# Altium integrated library Atmel Microcontroller tinyAVR.IntLib: 370 symbols (part 8 of 11)
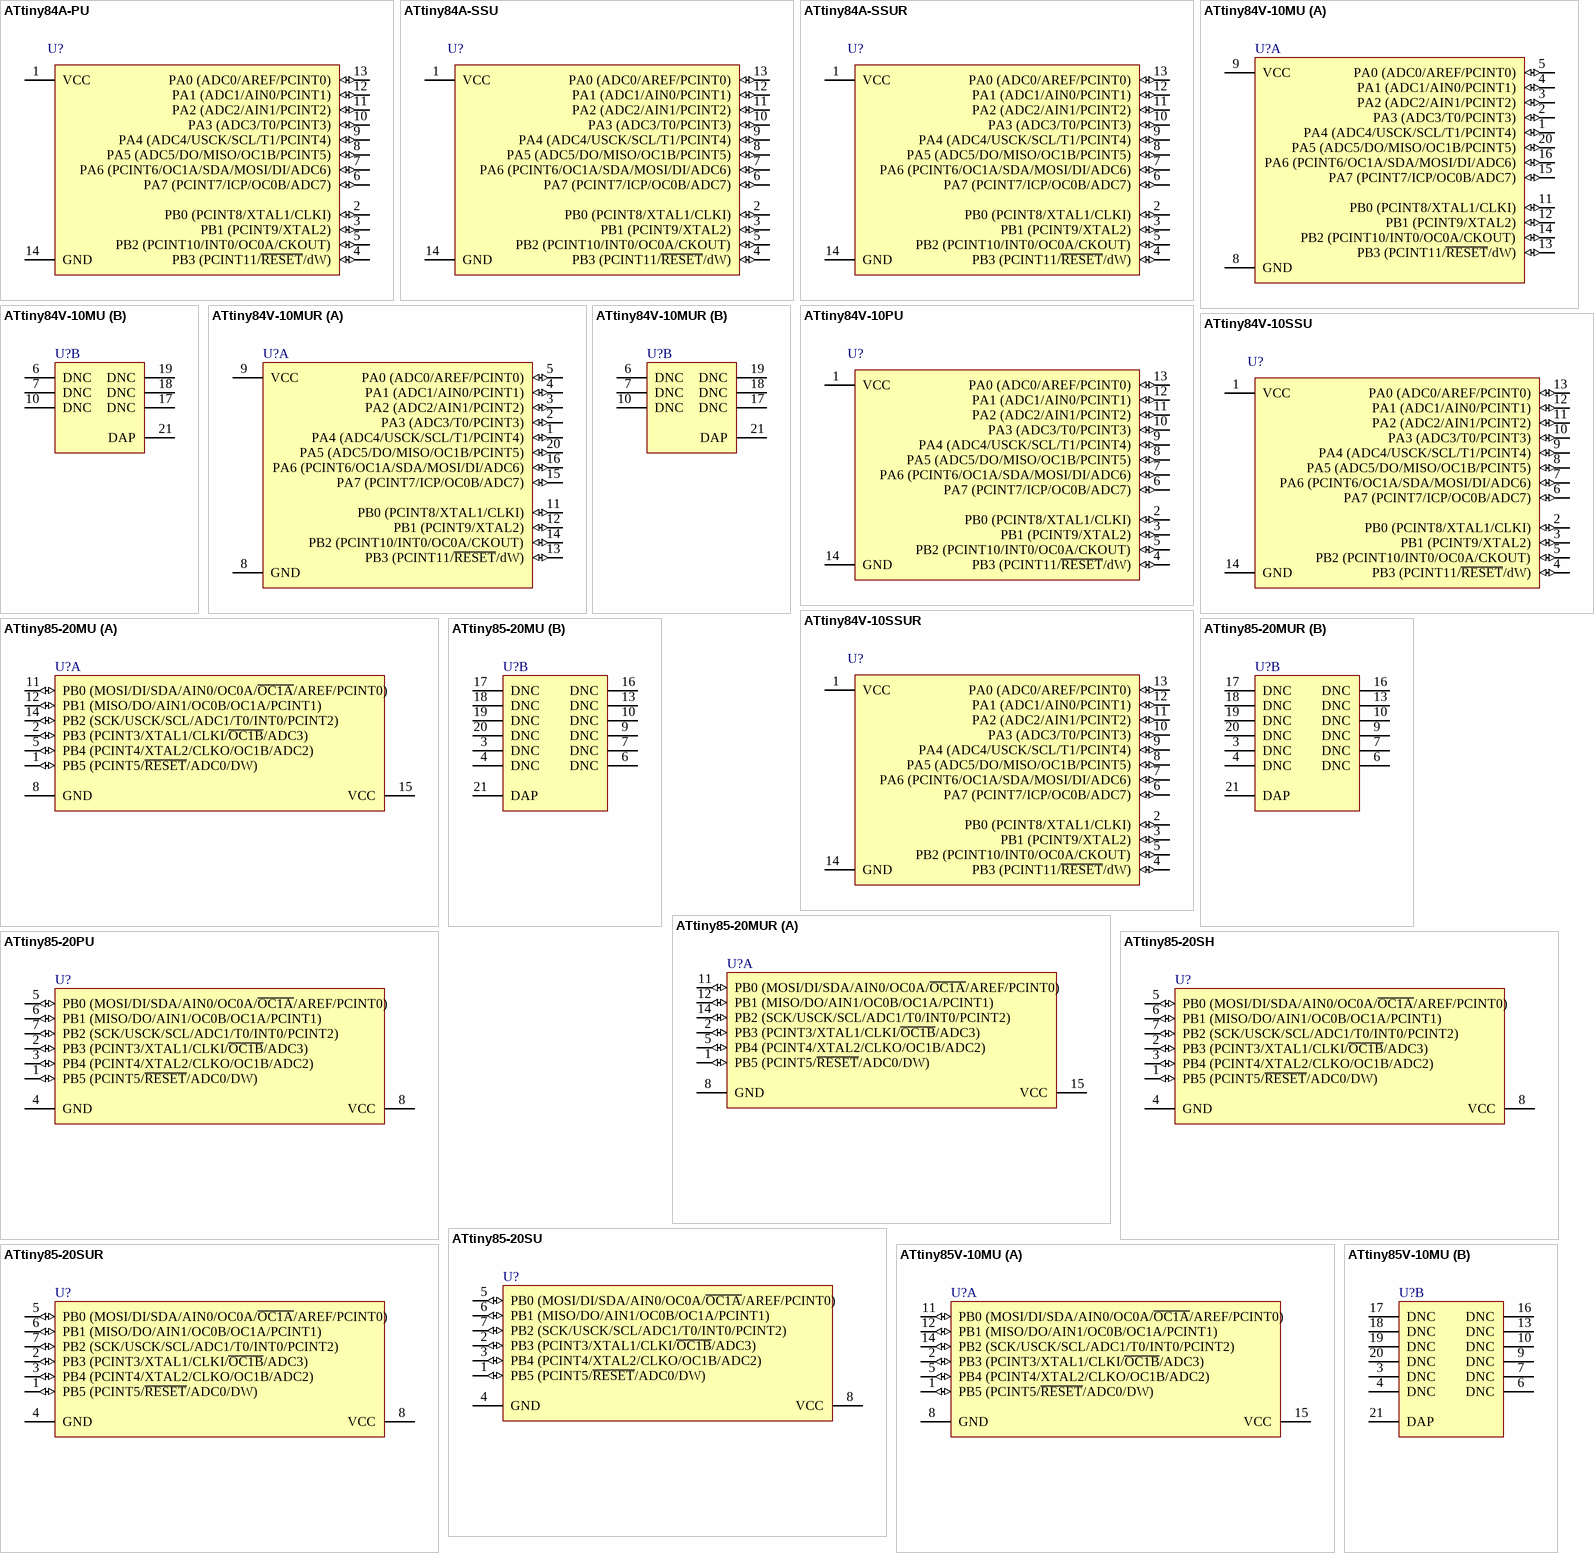
[diagram p33: symbols ATtiny84A-PU to ATtiny85V-10MU]

## ATtiny85-20SU
designator U?
8-bit AVR Microcontroller, 20MHz, 2.7-5.5V, 8K Flash, 512 Bytes EEPROM, 512 Bytes SRAM, Industrial Grade (-40°C to 85°C), 8-Lead SOIC, Pb-Free; DatasheetVersion: revN, Apr-2011; PackageVersion: revF, Apr-2008; PackageReference: 8S2; PackageDescription: 8-Lead, 0.208" Body, Plastic Small Outline Package (EIAJ); ComponentLink1Description: Manufacturer URL; ComponentLink1URL: http://www.atmel.com/; ComponentLink2Description: ATtiny25/45/85 Datasheet; ComponentLink2URL: http://www.atmel.com/dyn/resources/prod_documents/doc2586.pdf; ComponentLink3Description: ATtiny25/45/85 Summary; ComponentLink3URL: http://www.atmel.com/dyn/resources/prod_documents/2586S.pdf
footprint 8S2_N (SOP, 8-Leads, Body 5.3x5.3mm, Pitch 1.27mm, IPC Medium Density)
footprint 8S2_L (SOP, 8-Leads, Body 5.3x5.3mm, Pitch 1.27mm, IPC High Density)
footprint 8S2_M (SOP, 8-Leads, Body 5.3x5.3mm, Pitch 1.27mm, IPC Low Density)
pins: 1 PB5 (PCINT5/~{RESET}/ADC0/DW) (io), 2 PB3 (PCINT3/XTAL1/CLKI/~{OC1B}/ADC3) (io), 3 PB4 (PCINT4/XTAL2/CLKO/OC1B/ADC2) (io), 4 GND (power), 5 PB0 (MOSI/DI/SDA/AIN0/OC0A/~{OC1A}/AREF/PCINT0) (io), 6 PB1 (MISO/DO/AIN1/OC0B/OC1A/PCINT1) (io), 7 PB2 (SCK/USCK/SCL/ADC1/T0/INT0/PCINT2) (io), 8 VCC (power)

## ATtiny85-20SUR
designator U?
8-bit AVR Microcontroller, 20MHz, 2.7-5.5V, 8K Flash, 512 Bytes EEPROM, 512 Bytes SRAM, Industrial Grade (-40°C to 85°C), 8-Lead SOIC, Pb-Free, Reel; DatasheetVersion: revN, Apr-2011; PackageVersion: revF, Apr-2008; PackageReference: 8S2; PackageDescription: 8-Lead, 0.208" Body, Plastic Small Outline Package (EIAJ); ComponentLink1Description: Manufacturer URL; ComponentLink1URL: http://www.atmel.com/; ComponentLink2Description: ATtiny25/45/85 Datasheet; ComponentLink2URL: http://www.atmel.com/dyn/resources/prod_documents/doc2586.pdf; ComponentLink3Description: ATtiny25/45/85 Summary; ComponentLink3URL: http://www.atmel.com/dyn/resources/prod_documents/2586S.pdf
footprint 8S2_N (SOP, 8-Leads, Body 5.3x5.3mm, Pitch 1.27mm, IPC Medium Density)
footprint 8S2_L (SOP, 8-Leads, Body 5.3x5.3mm, Pitch 1.27mm, IPC High Density)
footprint 8S2_M (SOP, 8-Leads, Body 5.3x5.3mm, Pitch 1.27mm, IPC Low Density)
pins: 1 PB5 (PCINT5/~{RESET}/ADC0/DW) (io), 2 PB3 (PCINT3/XTAL1/CLKI/~{OC1B}/ADC3) (io), 3 PB4 (PCINT4/XTAL2/CLKO/OC1B/ADC2) (io), 4 GND (power), 5 PB0 (MOSI/DI/SDA/AIN0/OC0A/~{OC1A}/AREF/PCINT0) (io), 6 PB1 (MISO/DO/AIN1/OC0B/OC1A/PCINT1) (io), 7 PB2 (SCK/USCK/SCL/ADC1/T0/INT0/PCINT2) (io), 8 VCC (power)

## ATtiny85V-10MU
designator U?
8-bit AVR Microcontroller, 10MHz, 1.8-5.5V, 8K Flash, 512 Bytes EEPROM, 512 Bytes SRAM, Industrial Grade (-40°C to 85°C), 20-pad MLF, Pb-Free; DatasheetVersion: revN, Apr-2011; PackageVersion: revA, Oct-2004; PackageReference: 20M1; PackageDescription: 20-pad, 4 x 4 x 0.8 mm Body, Lead Pitch 0.50 mm, 2.6 mm Exposed Pad, Micro Lead Frame Package (MLF); Code_JEDEC: MO-220WGGD-5; ComponentLink1Description: Manufacturer URL; ComponentLink1URL: http://www.atmel.com/; ComponentLink2Description: ATtiny25/45/85 Datasheet; ComponentLink2URL: http://www.atmel.com/dyn/resources/prod_documents/doc2586.pdf; ComponentLink3Description: ATtiny25/45/85 Summary; ComponentLink3URL: http://www.atmel.com/dyn/resources/prod_documents/2586S.pdf
footprint 20M1_N (QFN, 20-Leads, Body 4x4mm, Pitch 0.5mm, Thermal Pad 2.7x2.7mm, IPC Medium Density)
footprint 20M1_L (QFN, 20-Leads, Body 4x4mm, Pitch 0.5mm, Thermal Pad 2.7x2.7mm, IPC High Density)
footprint 20M1_M (QFN, 20-Leads, Body 4x4mm, Pitch 0.5mm, Thermal Pad 2.7x2.7mm, IPC Low Density)
part A pins: 1 PB5 (PCINT5/~{RESET}/ADC0/DW) (io), 2 PB3 (PCINT3/XTAL1/CLKI/~{OC1B}/ADC3) (io), 5 PB4 (PCINT4/XTAL2/CLKO/OC1B/ADC2) (io), 8 GND (power), 11 PB0 (MOSI/DI/SDA/AIN0/OC0A/~{OC1A}/AREF/PCINT0) (io), 12 PB1 (MISO/DO/AIN1/OC0B/OC1A/PCINT1) (io), 14 PB2 (SCK/USCK/SCL/ADC1/T0/INT0/PCINT2) (io), 15 VCC (power)
part B pins: 3 DNC, 4 DNC, 6 DNC, 7 DNC, 9 DNC, 10 DNC, 13 DNC, 16 DNC, 17 DNC, 18 DNC, 19 DNC, 20 DNC, 21 DAP

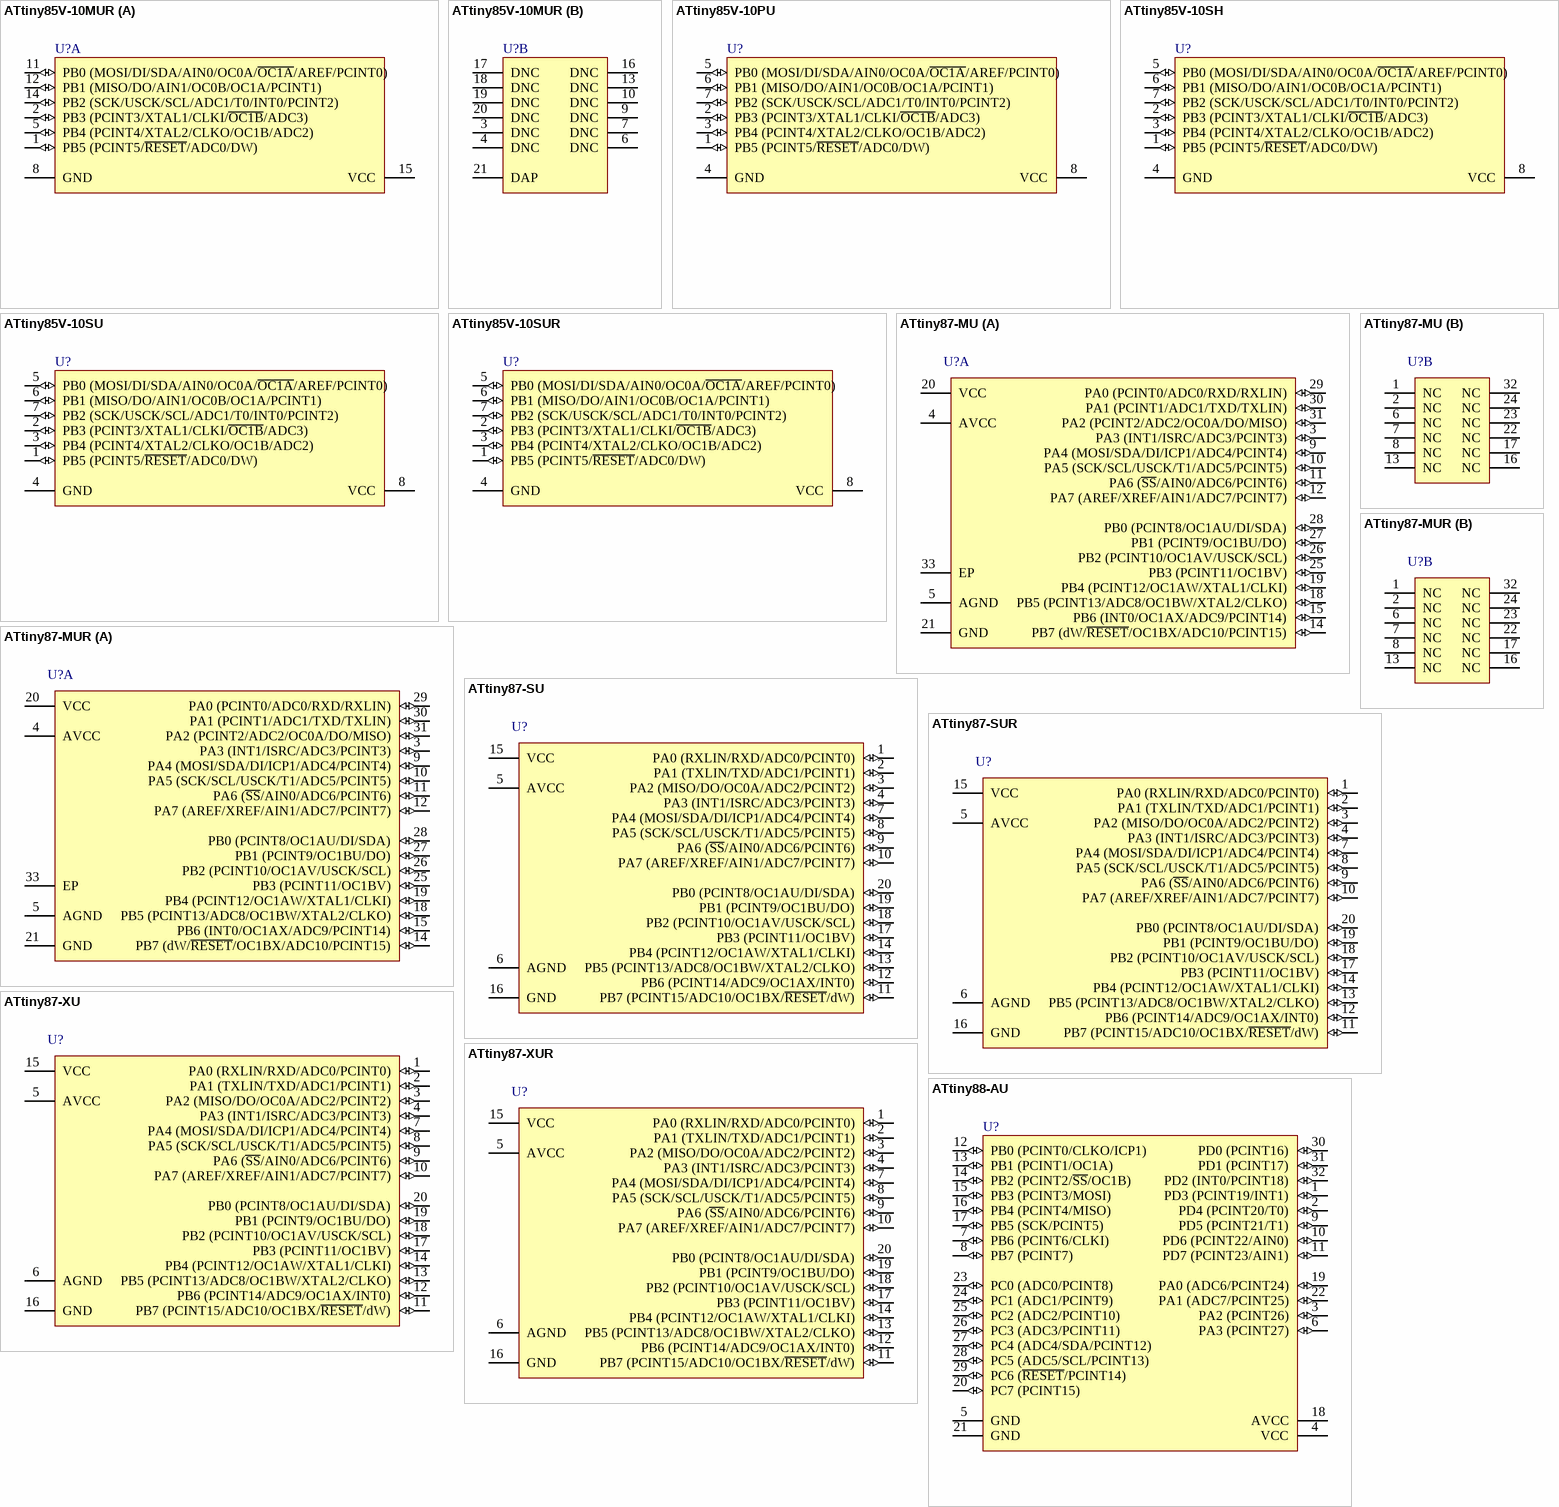
[diagram p17: symbols ATtiny85V-10MUR to ATtiny88-AU]

## ATtiny85V-10MUR
designator U?
8-bit AVR Microcontroller, 10MHz, 1.8-5.5V, 8K Flash, 512 Bytes EEPROM, 512 Bytes SRAM, Industrial Grade (-40°C to 85°C), 20-pad MLF, Pb-Free, Reel; DatasheetVersion: revN, Apr-2011; PackageVersion: revA, Oct-2004; PackageReference: 20M1; PackageDescription: 20-pad, 4 x 4 x 0.8 mm Body, Lead Pitch 0.50 mm, 2.6 mm Exposed Pad, Micro Lead Frame Package (MLF); Code_JEDEC: MO-220WGGD-5; ComponentLink1Description: Manufacturer URL; ComponentLink1URL: http://www.atmel.com/; ComponentLink2Description: ATtiny25/45/85 Datasheet; ComponentLink2URL: http://www.atmel.com/dyn/resources/prod_documents/doc2586.pdf; ComponentLink3Description: ATtiny25/45/85 Summary; ComponentLink3URL: http://www.atmel.com/dyn/resources/prod_documents/2586S.pdf
footprint 20M1_N (QFN, 20-Leads, Body 4x4mm, Pitch 0.5mm, Thermal Pad 2.7x2.7mm, IPC Medium Density)
footprint 20M1_L (QFN, 20-Leads, Body 4x4mm, Pitch 0.5mm, Thermal Pad 2.7x2.7mm, IPC High Density)
footprint 20M1_M (QFN, 20-Leads, Body 4x4mm, Pitch 0.5mm, Thermal Pad 2.7x2.7mm, IPC Low Density)
part A pins: 1 PB5 (PCINT5/~{RESET}/ADC0/DW) (io), 2 PB3 (PCINT3/XTAL1/CLKI/~{OC1B}/ADC3) (io), 5 PB4 (PCINT4/XTAL2/CLKO/OC1B/ADC2) (io), 8 GND (power), 11 PB0 (MOSI/DI/SDA/AIN0/OC0A/~{OC1A}/AREF/PCINT0) (io), 12 PB1 (MISO/DO/AIN1/OC0B/OC1A/PCINT1) (io), 14 PB2 (SCK/USCK/SCL/ADC1/T0/INT0/PCINT2) (io), 15 VCC (power)
part B pins: 3 DNC, 4 DNC, 6 DNC, 7 DNC, 9 DNC, 10 DNC, 13 DNC, 16 DNC, 17 DNC, 18 DNC, 19 DNC, 20 DNC, 21 DAP

## ATtiny85V-10PU
designator U?
8-bit AVR Microcontroller, 10MHz, 1.8-5.5V, 8K Flash, 512 Bytes EEPROM, 512 Bytes SRAM, Industrial Grade (-40°C to 85°C), 8-Lead PDIP, Pb-Free; DatasheetVersion: revN, Apr-2011; PackageVersion: revB, Jan-2002; PackageReference: 8P3; PackageDescription: 8-Lead, 0.300" Wide Body, Plastic Dual In-Line Package (PDIP); Code_JEDEC: MS-001-BA; ComponentLink1Description: Manufacturer URL; ComponentLink1URL: http://www.atmel.com/; ComponentLink2Description: ATtiny25/45/85 Datasheet; ComponentLink2URL: http://www.atmel.com/dyn/resources/prod_documents/doc2586.pdf; ComponentLink3Description: ATtiny25/45/85 Summary; ComponentLink3URL: http://www.atmel.com/dyn/resources/prod_documents/2586S.pdf
footprint 8P3 (DIP, 8-Leads, Row Spacing 7.62mm, Pitch 2.54mm, Body 9.59x6.61mm)
pins: 1 PB5 (PCINT5/~{RESET}/ADC0/DW) (io), 2 PB3 (PCINT3/XTAL1/CLKI/~{OC1B}/ADC3) (io), 3 PB4 (PCINT4/XTAL2/CLKO/OC1B/ADC2) (io), 4 GND (power), 5 PB0 (MOSI/DI/SDA/AIN0/OC0A/~{OC1A}/AREF/PCINT0) (io), 6 PB1 (MISO/DO/AIN1/OC0B/OC1A/PCINT1) (io), 7 PB2 (SCK/USCK/SCL/ADC1/T0/INT0/PCINT2) (io), 8 VCC (power)

## ATtiny85V-10SH
designator U?
8-bit AVR Microcontroller, 10MHz, 1.8-5.5V, 8K Flash, 512 Bytes EEPROM, 512 Bytes SRAM, Industrial Grade (-40°C to 85°C), 8-Lead SOIC, Pb-Free; DatasheetVersion: revN, Apr-2011; PackageVersion: revF, Apr-2008; PackageReference: 8S2; PackageDescription: 8-Lead, 0.208" Body, Plastic Small Outline Package (EIAJ); ComponentLink1Description: Manufacturer URL; ComponentLink1URL: http://www.atmel.com/; ComponentLink2Description: ATtiny25/45/85 Datasheet; ComponentLink2URL: http://www.atmel.com/dyn/resources/prod_documents/doc2586.pdf; ComponentLink3Description: ATtiny25/45/85 Summary; ComponentLink3URL: http://www.atmel.com/dyn/resources/prod_documents/2586S.pdf
footprint 8S2_N (SOP, 8-Leads, Body 5.3x5.3mm, Pitch 1.27mm, IPC Medium Density)
footprint 8S2_L (SOP, 8-Leads, Body 5.3x5.3mm, Pitch 1.27mm, IPC High Density)
footprint 8S2_M (SOP, 8-Leads, Body 5.3x5.3mm, Pitch 1.27mm, IPC Low Density)
pins: 1 PB5 (PCINT5/~{RESET}/ADC0/DW) (io), 2 PB3 (PCINT3/XTAL1/CLKI/~{OC1B}/ADC3) (io), 3 PB4 (PCINT4/XTAL2/CLKO/OC1B/ADC2) (io), 4 GND (power), 5 PB0 (MOSI/DI/SDA/AIN0/OC0A/~{OC1A}/AREF/PCINT0) (io), 6 PB1 (MISO/DO/AIN1/OC0B/OC1A/PCINT1) (io), 7 PB2 (SCK/USCK/SCL/ADC1/T0/INT0/PCINT2) (io), 8 VCC (power)

## ATtiny85V-10SU
designator U?
8-bit AVR Microcontroller, 10MHz, 1.8-5.5V, 8K Flash, 512 Bytes EEPROM, 512 Bytes SRAM, Industrial Grade (-40°C to 85°C), 8-Lead SOIC, Pb-Free; DatasheetVersion: revN, Apr-2011; PackageVersion: revF, Apr-2008; PackageReference: 8S2; PackageDescription: 8-Lead, 0.208" Body, Plastic Small Outline Package (EIAJ); ComponentLink1Description: Manufacturer URL; ComponentLink1URL: http://www.atmel.com/; ComponentLink2Description: ATtiny25/45/85 Datasheet; ComponentLink2URL: http://www.atmel.com/dyn/resources/prod_documents/doc2586.pdf; ComponentLink3Description: ATtiny25/45/85 Summary; ComponentLink3URL: http://www.atmel.com/dyn/resources/prod_documents/2586S.pdf
footprint 8S2_N (SOP, 8-Leads, Body 5.3x5.3mm, Pitch 1.27mm, IPC Medium Density)
footprint 8S2_L (SOP, 8-Leads, Body 5.3x5.3mm, Pitch 1.27mm, IPC High Density)
footprint 8S2_M (SOP, 8-Leads, Body 5.3x5.3mm, Pitch 1.27mm, IPC Low Density)
pins: 1 PB5 (PCINT5/~{RESET}/ADC0/DW) (io), 2 PB3 (PCINT3/XTAL1/CLKI/~{OC1B}/ADC3) (io), 3 PB4 (PCINT4/XTAL2/CLKO/OC1B/ADC2) (io), 4 GND (power), 5 PB0 (MOSI/DI/SDA/AIN0/OC0A/~{OC1A}/AREF/PCINT0) (io), 6 PB1 (MISO/DO/AIN1/OC0B/OC1A/PCINT1) (io), 7 PB2 (SCK/USCK/SCL/ADC1/T0/INT0/PCINT2) (io), 8 VCC (power)

## ATtiny85V-10SUR
designator U?
8-bit AVR Microcontroller, 10MHz, 1.8-5.5V, 8K Flash, 512 Bytes EEPROM, 512 Bytes SRAM, Industrial Grade (-40°C to 85°C), 8-Lead SOIC, Pb-Free, Reel; DatasheetVersion: revN, Apr-2011; PackageVersion: revF, Apr-2008; PackageReference: 8S2; PackageDescription: 8-Lead, 0.208" Body, Plastic Small Outline Package (EIAJ); ComponentLink1Description: Manufacturer URL; ComponentLink1URL: http://www.atmel.com/; ComponentLink2Description: ATtiny25/45/85 Datasheet; ComponentLink2URL: http://www.atmel.com/dyn/resources/prod_documents/doc2586.pdf; ComponentLink3Description: ATtiny25/45/85 Summary; ComponentLink3URL: http://www.atmel.com/dyn/resources/prod_documents/2586S.pdf
footprint 8S2_N (SOP, 8-Leads, Body 5.3x5.3mm, Pitch 1.27mm, IPC Medium Density)
footprint 8S2_L (SOP, 8-Leads, Body 5.3x5.3mm, Pitch 1.27mm, IPC High Density)
footprint 8S2_M (SOP, 8-Leads, Body 5.3x5.3mm, Pitch 1.27mm, IPC Low Density)
pins: 1 PB5 (PCINT5/~{RESET}/ADC0/DW) (io), 2 PB3 (PCINT3/XTAL1/CLKI/~{OC1B}/ADC3) (io), 3 PB4 (PCINT4/XTAL2/CLKO/OC1B/ADC2) (io), 4 GND (power), 5 PB0 (MOSI/DI/SDA/AIN0/OC0A/~{OC1A}/AREF/PCINT0) (io), 6 PB1 (MISO/DO/AIN1/OC0B/OC1A/PCINT1) (io), 7 PB2 (SCK/USCK/SCL/ADC1/T0/INT0/PCINT2) (io), 8 VCC (power)

## ATtiny87-MU
designator U?
8-bit AVR Microcontroller, LIN Controller, 1.8-5.5V, 16MHz, 8KB Flash, 512 Bytes EEPROM, 512 Bytes SRAM, 32-pin MLF, Industrial Grade (-40°C to 85°C); DatasheetVersion: revB, Sep-2010; PackageVersion: revE, May-2006; PackageReference: 32M1-A; PackageDescription: 32-Pin Micro Lead Frame Package (MLF),  5 x 5 x 1.0 mm Body, Pitch 0.50 mm, 3.10mm Exposed Pad; Code_JEDEC: MO-220-VHHD-2; ComponentLink1Description: Manufacturer URL; ComponentLink1URL: http://www.atmel.com/; ComponentLink2Description: ATtiny87/167 Datasheet; ComponentLink2URL: http://www.atmel.com/dyn/resources/prod_documents/doc8265.pdf; ComponentLink3Description: ATtiny87/167 Summary; ComponentLink3URL: http://www.atmel.com/dyn/resources/prod_documents/8265S.pdf
footprint 32M1-A_N (QFN, 32-Leads, Body 5x5mm, Pitch 0.5mm, Thermal Pad 3.3x3.3mm, IPC Medium Density)
footprint 32M1-A_L (QFN, 32-Leads, Body 5x5mm, Pitch 0.5mm, Thermal Pad 3.3x3.3mm, IPC High Density)
footprint 32M1-A_M (QFN, 32-Leads, Body 5x5mm, Pitch 0.5mm, Thermal Pad 3.3x3.3mm, IPC Low Density)
part A pins: 3 PA3 (INT1/ISRC/ADC3/PCINT3) (io), 4 AVCC (power), 5 AGND (power), 9 PA4 (MOSI/SDA/DI/ICP1/ADC4/PCINT4) (io), 10 PA5 (SCK/SCL/USCK/T1/ADC5/PCINT5) (io), 11 PA6 (~{SS}/AIN0/ADC6/PCINT6) (io), 12 PA7 (AREF/XREF/AIN1/ADC7/PCINT7) (io), 14 PB7 (dW/~{RESET}/OC1BX/ADC10/PCINT15) (io), 15 PB6 (INT0/OC1AX/ADC9/PCINT14) (io), 18 PB5 (PCINT13/ADC8/OC1BW/XTAL2/CLKO) (io), 19 PB4 (PCINT12/OC1AW/XTAL1/CLKI) (io), 20 VCC (power), 21 GND (power), 25 PB3 (PCINT11/OC1BV) (io), 26 PB2 (PCINT10/OC1AV/USCK/SCL) (io), 27 PB1 (PCINT9/OC1BU/DO) (io), 28 PB0 (PCINT8/OC1AU/DI/SDA) (io), 29 PA0 (PCINT0/ADC0/RXD/RXLIN) (io), 30 PA1 (PCINT1/ADC1/TXD/TXLIN) (io), 31 PA2 (PCINT2/ADC2/OC0A/DO/MISO) (io), 33 EP (power)
part B pins: 1 NC, 2 NC, 6 NC, 7 NC, 8 NC, 13 NC, 16 NC, 17 NC, 22 NC, 23 NC, 24 NC, 32 NC

## ATtiny87-MUR
designator U?
8-bit AVR Microcontroller, LIN Controller, 1.8-5.5V, 16MHz, 8KB Flash, 512 Bytes EEPROM, 512 Bytes SRAM, 32-pin MLF, Industrial Grade (-40°C to 85°C), Reel; DatasheetVersion: revB, Sep-2010; PackageVersion: revE, May-2006; PackageReference: 32M1-A; PackageDescription: 32-Pin Micro Lead Frame Package (MLF),  5 x 5 x 1.0 mm Body, Pitch 0.50 mm, 3.10mm Exposed Pad; Code_JEDEC: MO-220-VHHD-2; ComponentLink1Description: Manufacturer URL; ComponentLink1URL: http://www.atmel.com/; ComponentLink2Description: ATtiny87/167 Datasheet; ComponentLink2URL: http://www.atmel.com/dyn/resources/prod_documents/doc8265.pdf; ComponentLink3Description: ATtiny87/167 Summary; ComponentLink3URL: http://www.atmel.com/dyn/resources/prod_documents/8265S.pdf
footprint 32M1-A_N (QFN, 32-Leads, Body 5x5mm, Pitch 0.5mm, Thermal Pad 3.3x3.3mm, IPC Medium Density)
footprint 32M1-A_L (QFN, 32-Leads, Body 5x5mm, Pitch 0.5mm, Thermal Pad 3.3x3.3mm, IPC High Density)
footprint 32M1-A_M (QFN, 32-Leads, Body 5x5mm, Pitch 0.5mm, Thermal Pad 3.3x3.3mm, IPC Low Density)
part A pins: 3 PA3 (INT1/ISRC/ADC3/PCINT3) (io), 4 AVCC (power), 5 AGND (power), 9 PA4 (MOSI/SDA/DI/ICP1/ADC4/PCINT4) (io), 10 PA5 (SCK/SCL/USCK/T1/ADC5/PCINT5) (io), 11 PA6 (~{SS}/AIN0/ADC6/PCINT6) (io), 12 PA7 (AREF/XREF/AIN1/ADC7/PCINT7) (io), 14 PB7 (dW/~{RESET}/OC1BX/ADC10/PCINT15) (io), 15 PB6 (INT0/OC1AX/ADC9/PCINT14) (io), 18 PB5 (PCINT13/ADC8/OC1BW/XTAL2/CLKO) (io), 19 PB4 (PCINT12/OC1AW/XTAL1/CLKI) (io), 20 VCC (power), 21 GND (power), 25 PB3 (PCINT11/OC1BV) (io), 26 PB2 (PCINT10/OC1AV/USCK/SCL) (io), 27 PB1 (PCINT9/OC1BU/DO) (io), 28 PB0 (PCINT8/OC1AU/DI/SDA) (io), 29 PA0 (PCINT0/ADC0/RXD/RXLIN) (io), 30 PA1 (PCINT1/ADC1/TXD/TXLIN) (io), 31 PA2 (PCINT2/ADC2/OC0A/DO/MISO) (io), 33 EP (power)
part B pins: 1 NC, 2 NC, 6 NC, 7 NC, 8 NC, 13 NC, 16 NC, 17 NC, 22 NC, 23 NC, 24 NC, 32 NC

## ATtiny87-SU
designator U?
8-bit AVR Microcontroller, LIN Controller, 1.8-5.5V, 16MHz, 8KB Flash, 512 Bytes EEPROM, 512 Bytes SRAM, 20-pin SOIC, Industrial Grade (-40°C to 85°C); DatasheetVersion: revB, Sep-2010; PackageVersion: revB, Nov-2006; PackageReference: 20S2; PackageDescription: 20-lead, 0.300" Wide Body, Plastic Gull Wing Small Outline Package (SOIC); Code_JEDEC: MS-013-AC; Code_IPC: SOIC127P1030-20; ComponentLink1Description: Manufacturer URL; ComponentLink1URL: http://www.atmel.com/; ComponentLink2Description: ATtiny87/167 Datasheet; ComponentLink2URL: http://www.atmel.com/dyn/resources/prod_documents/doc8265.pdf; ComponentLink3Description: ATtiny87/167 Summary; ComponentLink3URL: http://www.atmel.com/dyn/resources/prod_documents/8265S.pdf
footprint 20S2_N (SOIC, 20-Leads, Body 12.8x7.5mm, Pitch 1.27mm, IPC Medium Density)
footprint 20S2_L (SOIC, 20-Leads, Body 12.8x7.5mm, Pitch 1.27mm, IPC High Density)
footprint 20S2_M (SOIC, 20-Leads, Body 12.8x7.5mm, Pitch 1.27mm, IPC Low Density)
pins: 1 PA0 (RXLIN/RXD/ADC0/PCINT0) (io), 2 PA1 (TXLIN/TXD/ADC1/PCINT1) (io), 3 PA2 (MISO/DO/OC0A/ADC2/PCINT2) (io), 4 PA3 (INT1/ISRC/ADC3/PCINT3) (io), 5 AVCC (power), 6 AGND (power), 7 PA4 (MOSI/SDA/DI/ICP1/ADC4/PCINT4) (io), 8 PA5 (SCK/SCL/USCK/T1/ADC5/PCINT5) (io), 9 PA6 (~{SS}/AIN0/ADC6/PCINT6) (io), 10 PA7 (AREF/XREF/AIN1/ADC7/PCINT7) (io), 11 PB7 (PCINT15/ADC10/OC1BX/~{RESET}/dW) (io), 12 PB6 (PCINT14/ADC9/OC1AX/INT0) (io), 13 PB5 (PCINT13/ADC8/OC1BW/XTAL2/CLKO) (io), 14 PB4 (PCINT12/OC1AW/XTAL1/CLKI) (io), 15 VCC (power), 16 GND (power), 17 PB3 (PCINT11/OC1BV) (io), 18 PB2 (PCINT10/OC1AV/USCK/SCL) (io), 19 PB1 (PCINT9/OC1BU/DO) (io), 20 PB0 (PCINT8/OC1AU/DI/SDA) (io)

## ATtiny87-SUR
designator U?
8-bit AVR Microcontroller, LIN Controller, 1.8-5.5V, 16MHz, 8KB Flash, 512 Bytes EEPROM, 512 Bytes SRAM, 20-pin SOIC, Industrial Grade (-40°C to 85°C), Reel; DatasheetVersion: revB, Sep-2010; PackageVersion: revB, Nov-2006; PackageReference: 20S2; PackageDescription: 20-lead, 0.300" Wide Body, Plastic Gull Wing Small Outline Package (SOIC); Code_JEDEC: MS-013-AC; Code_IPC: SOIC127P1030-20; ComponentLink1Description: Manufacturer URL; ComponentLink1URL: http://www.atmel.com/; ComponentLink2Description: ATtiny87/167 Datasheet; ComponentLink2URL: http://www.atmel.com/dyn/resources/prod_documents/doc8265.pdf; ComponentLink3Description: ATtiny87/167 Summary; ComponentLink3URL: http://www.atmel.com/dyn/resources/prod_documents/8265S.pdf
footprint 20S2_N (SOIC, 20-Leads, Body 12.8x7.5mm, Pitch 1.27mm, IPC Medium Density)
footprint 20S2_L (SOIC, 20-Leads, Body 12.8x7.5mm, Pitch 1.27mm, IPC High Density)
footprint 20S2_M (SOIC, 20-Leads, Body 12.8x7.5mm, Pitch 1.27mm, IPC Low Density)
pins: 1 PA0 (RXLIN/RXD/ADC0/PCINT0) (io), 2 PA1 (TXLIN/TXD/ADC1/PCINT1) (io), 3 PA2 (MISO/DO/OC0A/ADC2/PCINT2) (io), 4 PA3 (INT1/ISRC/ADC3/PCINT3) (io), 5 AVCC (power), 6 AGND (power), 7 PA4 (MOSI/SDA/DI/ICP1/ADC4/PCINT4) (io), 8 PA5 (SCK/SCL/USCK/T1/ADC5/PCINT5) (io), 9 PA6 (~{SS}/AIN0/ADC6/PCINT6) (io), 10 PA7 (AREF/XREF/AIN1/ADC7/PCINT7) (io), 11 PB7 (PCINT15/ADC10/OC1BX/~{RESET}/dW) (io), 12 PB6 (PCINT14/ADC9/OC1AX/INT0) (io), 13 PB5 (PCINT13/ADC8/OC1BW/XTAL2/CLKO) (io), 14 PB4 (PCINT12/OC1AW/XTAL1/CLKI) (io), 15 VCC (power), 16 GND (power), 17 PB3 (PCINT11/OC1BV) (io), 18 PB2 (PCINT10/OC1AV/USCK/SCL) (io), 19 PB1 (PCINT9/OC1BU/DO) (io), 20 PB0 (PCINT8/OC1AU/DI/SDA) (io)

## ATtiny87-XU
designator U?
8-bit AVR Microcontroller, LIN Controller, 1.8-5.5V, 16MHz, 8KB Flash, 512 Bytes EEPROM, 512 Bytes SRAM, 20-pin TSSOP, Industrial Grade (-40°C to 85°C); DatasheetVersion: revB, Sep-2010; PackageVersion: revC, Oct-2003; PackageReference: 20X; PackageDescription: 20-lead, 4.4 mm Body Width, Plastic Thin Shrink Small Outline Package (TSSOP); ComponentLink1Description: Manufacturer URL; ComponentLink1URL: http://www.atmel.com/; ComponentLink2Description: ATtiny87/167 Datasheet; ComponentLink2URL: http://www.atmel.com/dyn/resources/prod_documents/doc8265.pdf; ComponentLink3Description: ATtiny87/167 Summary; ComponentLink3URL: http://www.atmel.com/dyn/resources/prod_documents/8265S.pdf
footprint 20X_N (TSOP, 20-Leads, Body 6.5x4.4mm, Pitch 0.65mm, IPC Medium Density)
footprint 20X_L (TSOP, 20-Leads, Body 6.5x4.4mm, Pitch 0.65mm, IPC High Density)
footprint 20X_M (TSOP, 20-Leads, Body 6.5x4.4mm, Pitch 0.65mm, IPC Low Density)
pins: 1 PA0 (RXLIN/RXD/ADC0/PCINT0) (io), 2 PA1 (TXLIN/TXD/ADC1/PCINT1) (io), 3 PA2 (MISO/DO/OC0A/ADC2/PCINT2) (io), 4 PA3 (INT1/ISRC/ADC3/PCINT3) (io), 5 AVCC (power), 6 AGND (power), 7 PA4 (MOSI/SDA/DI/ICP1/ADC4/PCINT4) (io), 8 PA5 (SCK/SCL/USCK/T1/ADC5/PCINT5) (io), 9 PA6 (~{SS}/AIN0/ADC6/PCINT6) (io), 10 PA7 (AREF/XREF/AIN1/ADC7/PCINT7) (io), 11 PB7 (PCINT15/ADC10/OC1BX/~{RESET}/dW) (io), 12 PB6 (PCINT14/ADC9/OC1AX/INT0) (io), 13 PB5 (PCINT13/ADC8/OC1BW/XTAL2/CLKO) (io), 14 PB4 (PCINT12/OC1AW/XTAL1/CLKI) (io), 15 VCC (power), 16 GND (power), 17 PB3 (PCINT11/OC1BV) (io), 18 PB2 (PCINT10/OC1AV/USCK/SCL) (io), 19 PB1 (PCINT9/OC1BU/DO) (io), 20 PB0 (PCINT8/OC1AU/DI/SDA) (io)

## ATtiny87-XUR
designator U?
8-bit AVR Microcontroller, LIN Controller, 1.8-5.5V, 16MHz, 8KB Flash, 512 Bytes EEPROM, 512 Bytes SRAM, 20-pin TSSOP, Industrial Grade (-40°C to 85°C), Reel; DatasheetVersion: revB, Sep-2010; PackageVersion: revC, Oct-2003; PackageReference: 20X; PackageDescription: 20-lead, 4.4 mm Body Width, Plastic Thin Shrink Small Outline Package (TSSOP); ComponentLink1Description: Manufacturer URL; ComponentLink1URL: http://www.atmel.com/; ComponentLink2Description: ATtiny87/167 Datasheet; ComponentLink2URL: http://www.atmel.com/dyn/resources/prod_documents/doc8265.pdf; ComponentLink3Description: ATtiny87/167 Summary; ComponentLink3URL: http://www.atmel.com/dyn/resources/prod_documents/8265S.pdf
footprint 20X_N (TSOP, 20-Leads, Body 6.5x4.4mm, Pitch 0.65mm, IPC Medium Density)
footprint 20X_L (TSOP, 20-Leads, Body 6.5x4.4mm, Pitch 0.65mm, IPC High Density)
footprint 20X_M (TSOP, 20-Leads, Body 6.5x4.4mm, Pitch 0.65mm, IPC Low Density)
pins: 1 PA0 (RXLIN/RXD/ADC0/PCINT0) (io), 2 PA1 (TXLIN/TXD/ADC1/PCINT1) (io), 3 PA2 (MISO/DO/OC0A/ADC2/PCINT2) (io), 4 PA3 (INT1/ISRC/ADC3/PCINT3) (io), 5 AVCC (power), 6 AGND (power), 7 PA4 (MOSI/SDA/DI/ICP1/ADC4/PCINT4) (io), 8 PA5 (SCK/SCL/USCK/T1/ADC5/PCINT5) (io), 9 PA6 (~{SS}/AIN0/ADC6/PCINT6) (io), 10 PA7 (AREF/XREF/AIN1/ADC7/PCINT7) (io), 11 PB7 (PCINT15/ADC10/OC1BX/~{RESET}/dW) (io), 12 PB6 (PCINT14/ADC9/OC1AX/INT0) (io), 13 PB5 (PCINT13/ADC8/OC1BW/XTAL2/CLKO) (io), 14 PB4 (PCINT12/OC1AW/XTAL1/CLKI) (io), 15 VCC (power), 16 GND (power), 17 PB3 (PCINT11/OC1BV) (io), 18 PB2 (PCINT10/OC1AV/USCK/SCL) (io), 19 PB1 (PCINT9/OC1BU/DO) (io), 20 PB0 (PCINT8/OC1AU/DI/SDA) (io)

## ATtiny88-AU
designator U?
8-bit AVR Microcontroller, 1.8-5.5V, 12MHz, 8KB Flash, 64 Bytes EEPROM, 512 Bytes SRAM, 32-pin TQFP, Industrial Grade (-40°C to 85°C), Pb-Free; DatasheetVersion: revC, Mar-2009; PackageVersion: revC, Oct-2010; PackageReference: 32A; PackageDescription: 32-Lead, 7x7x1.0 mm Body, 0.8mm Lead Pitch, Thin Profile Plastic Quad Flat Package (TQFP); Code_JEDEC: MS-026-ABA; ComponentLink1Description: Manufacturer URL; ComponentLink1URL: http://www.atmel.com/; ComponentLink2Description: ATtiny48/88 Datasheet; ComponentLink2URL: http://www.atmel.com/dyn/resources/prod_documents/doc8008.pdf; ComponentLink3Description: ATtiny48/88 Summary; ComponentLink3URL: http://www.atmel.com/dyn/resources/prod_documents/8008S.pdf
footprint 32A_N (Thin QFP, 32-Leads, Body 7x7mm, Pitch 0.8mm, IPC Medium Density)
footprint 32A_L (Thin QFP, 32-Leads, Body 7x7mm, Pitch 0.8mm, IPC High Density)
footprint 32A_M (Thin QFP, 32-Leads, Body 7x7mm, Pitch 0.8mm, IPC Low Density)
pins: 1 PD3 (PCINT19/INT1) (io), 2 PD4 (PCINT20/T0) (io), 3 PA2 (PCINT26) (io), 4 VCC (power), 5 GND (power), 6 PA3 (PCINT27) (io), 7 PB6 (PCINT6/CLKI) (io), 8 PB7 (PCINT7) (io), 9 PD5 (PCINT21/T1) (io), 10 PD6 (PCINT22/AIN0) (io), 11 PD7 (PCINT23/AIN1) (io), 12 PB0 (PCINT0/CLKO/ICP1) (io), 13 PB1 (PCINT1/OC1A) (io), 14 PB2 (PCINT2/~{SS}/OC1B) (io), 15 PB3 (PCINT3/MOSI) (io), 16 PB4 (PCINT4/MISO) (io), 17 PB5 (SCK/PCINT5) (io), 18 AVCC (power), 19 PA0 (ADC6/PCINT24) (io), 20 PC7 (PCINT15) (io), 21 GND (power), 22 PA1 (ADC7/PCINT25) (io), 23 PC0 (ADC0/PCINT8) (io), 24 PC1 (ADC1/PCINT9) (io), 25 PC2 (ADC2/PCINT10) (io), 26 PC3 (ADC3/PCINT11) (io), 27 PC4 (ADC4/SDA/PCINT12) (io), 28 PC5 (ADC5/SCL/PCINT13) (io), 29 PC6 (~{RESET}/PCINT14) (io), 30 PD0 (PCINT16) (io), 31 PD1 (PCINT17) (io), 32 PD2 (INT0/PCINT18) (io)

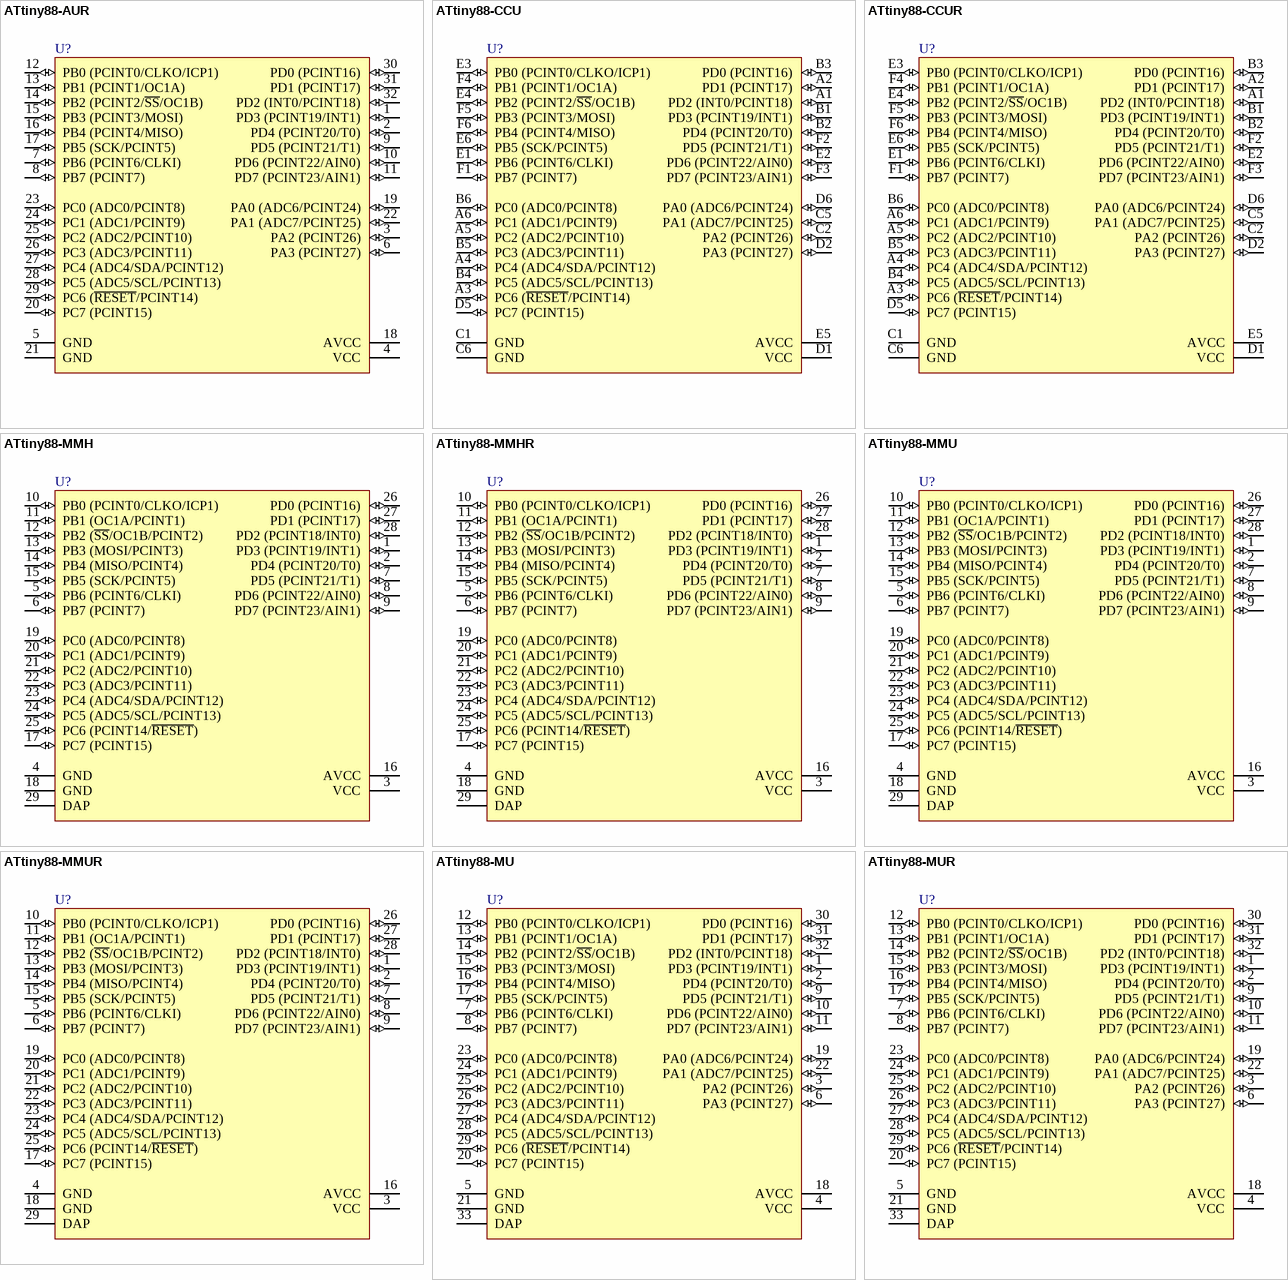
[diagram p18: symbols ATtiny88-AUR to ATtiny88-MUR]

## ATtiny88-AUR
designator U?
8-bit AVR Microcontroller, 1.8-5.5V, 12MHz, 8KB Flash, 64 Bytes EEPROM, 512 Bytes SRAM, 32-pin TQFP, Industrial Grade (-40°C to 85°C), Pb-Free, Reel; DatasheetVersion: revC, Mar-2009; PackageVersion: revC, Oct-2010; PackageReference: 32A; PackageDescription: 32-Lead, 7x7x1.0 mm Body, 0.8mm Lead Pitch, Thin Profile Plastic Quad Flat Package (TQFP); Code_JEDEC: MS-026-ABA; ComponentLink1Description: Manufacturer URL; ComponentLink1URL: http://www.atmel.com/; ComponentLink2Description: ATtiny48/88 Datasheet; ComponentLink2URL: http://www.atmel.com/dyn/resources/prod_documents/doc8008.pdf; ComponentLink3Description: ATtiny48/88 Summary; ComponentLink3URL: http://www.atmel.com/dyn/resources/prod_documents/8008S.pdf
footprint 32A_N (Thin QFP, 32-Leads, Body 7x7mm, Pitch 0.8mm, IPC Medium Density)
footprint 32A_L (Thin QFP, 32-Leads, Body 7x7mm, Pitch 0.8mm, IPC High Density)
footprint 32A_M (Thin QFP, 32-Leads, Body 7x7mm, Pitch 0.8mm, IPC Low Density)
pins: 1 PD3 (PCINT19/INT1) (io), 2 PD4 (PCINT20/T0) (io), 3 PA2 (PCINT26) (io), 4 VCC (power), 5 GND (power), 6 PA3 (PCINT27) (io), 7 PB6 (PCINT6/CLKI) (io), 8 PB7 (PCINT7) (io), 9 PD5 (PCINT21/T1) (io), 10 PD6 (PCINT22/AIN0) (io), 11 PD7 (PCINT23/AIN1) (io), 12 PB0 (PCINT0/CLKO/ICP1) (io), 13 PB1 (PCINT1/OC1A) (io), 14 PB2 (PCINT2/~{SS}/OC1B) (io), 15 PB3 (PCINT3/MOSI) (io), 16 PB4 (PCINT4/MISO) (io), 17 PB5 (SCK/PCINT5) (io), 18 AVCC (power), 19 PA0 (ADC6/PCINT24) (io), 20 PC7 (PCINT15) (io), 21 GND (power), 22 PA1 (ADC7/PCINT25) (io), 23 PC0 (ADC0/PCINT8) (io), 24 PC1 (ADC1/PCINT9) (io), 25 PC2 (ADC2/PCINT10) (io), 26 PC3 (ADC3/PCINT11) (io), 27 PC4 (ADC4/SDA/PCINT12) (io), 28 PC5 (ADC5/SCL/PCINT13) (io), 29 PC6 (~{RESET}/PCINT14) (io), 30 PD0 (PCINT16) (io), 31 PD1 (PCINT17) (io), 32 PD2 (INT0/PCINT18) (io)

## ATtiny88-CCU
designator U?
8-bit AVR Microcontroller, 1.8-5.5V, 12MHz, 8KB Flash, 64 Bytes EEPROM, 512 Bytes SRAM, 32-pin  UFBGA, Industrial Grade (-40°C to 85°C), Pb-Free; DatasheetVersion: revC, Mar-2009; PackageVersion: revB, Jun-2010; PackageReference: 32CC1; PackageDescription: 32-Ball Ultra Thin, Fine-Pitch BGA (6x6 Array) 4x4x0.6mm Body, 0.5mm Pitch (UFBGA); ComponentLink1Description: Manufacturer URL; ComponentLink1URL: http://www.atmel.com/; ComponentLink2Description: ATtiny48/88 Datasheet; ComponentLink2URL: http://www.atmel.com/dyn/resources/prod_documents/doc8008.pdf; ComponentLink3Description: ATtiny48/88 Summary; ComponentLink3URL: http://www.atmel.com/dyn/resources/prod_documents/8008S.pdf
footprint 32CC1 (BGA, 34-Leads, Body 4x4mm, Pitch 0.5mm)
pins: A1 PD2 (INT0/PCINT18) (io), A2 PD1 (PCINT17) (io), A3 PC6 (~{RESET}/PCINT14) (io), A4 PC4 (ADC4/SDA/PCINT12) (io), A5 PC2 (ADC2/PCINT10) (io), A6 PC1 (ADC1/PCINT9) (io), B1 PD3 (PCINT19/INT1) (io), B2 PD4 (PCINT20/T0) (io), B3 PD0 (PCINT16) (io), B4 PC5 (ADC5/SCL/PCINT13) (io), B5 PC3 (ADC3/PCINT11) (io), B6 PC0 (ADC0/PCINT8) (io), C1 GND (power), C2 PA2 (PCINT26) (io), C5 PA1 (ADC7/PCINT25) (io), C6 GND (power), D1 VCC (power), D2 PA3 (PCINT27) (io), D5 PC7 (PCINT15) (io), D6 PA0 (ADC6/PCINT24) (io), E1 PB6 (PCINT6/CLKI) (io), E2 PD6 (PCINT22/AIN0) (io), E3 PB0 (PCINT0/CLKO/ICP1) (io), E4 PB2 (PCINT2/~{SS}/OC1B) (io), E5 AVCC (power), E6 PB5 (SCK/PCINT5) (io), F1 PB7 (PCINT7) (io), F2 PD5 (PCINT21/T1) (io), F3 PD7 (PCINT23/AIN1) (io), F4 PB1 (PCINT1/OC1A) (io), F5 PB3 (PCINT3/MOSI) (io), F6 PB4 (PCINT4/MISO) (io)

## ATtiny88-CCUR
designator U?
8-bit AVR Microcontroller, 1.8-5.5V, 12MHz, 8KB Flash, 64 Bytes EEPROM, 512 Bytes SRAM, 32-pin  UFBGA, Industrial Grade (-40°C to 85°C), Pb-Free, Reel; DatasheetVersion: revC, Mar-2009; PackageVersion: revB, Jun-2010; PackageReference: 32CC1; PackageDescription: 32-Ball Ultra Thin, Fine-Pitch BGA (6x6 Array) 4x4x0.6mm Body, 0.5mm Pitch (UFBGA); ComponentLink1Description: Manufacturer URL; ComponentLink1URL: http://www.atmel.com/; ComponentLink2Description: ATtiny48/88 Datasheet; ComponentLink2URL: http://www.atmel.com/dyn/resources/prod_documents/doc8008.pdf; ComponentLink3Description: ATtiny48/88 Summary; ComponentLink3URL: http://www.atmel.com/dyn/resources/prod_documents/8008S.pdf
footprint 32CC1 (BGA, 34-Leads, Body 4x4mm, Pitch 0.5mm)
pins: A1 PD2 (INT0/PCINT18) (io), A2 PD1 (PCINT17) (io), A3 PC6 (~{RESET}/PCINT14) (io), A4 PC4 (ADC4/SDA/PCINT12) (io), A5 PC2 (ADC2/PCINT10) (io), A6 PC1 (ADC1/PCINT9) (io), B1 PD3 (PCINT19/INT1) (io), B2 PD4 (PCINT20/T0) (io), B3 PD0 (PCINT16) (io), B4 PC5 (ADC5/SCL/PCINT13) (io), B5 PC3 (ADC3/PCINT11) (io), B6 PC0 (ADC0/PCINT8) (io), C1 GND (power), C2 PA2 (PCINT26) (io), C5 PA1 (ADC7/PCINT25) (io), C6 GND (power), D1 VCC (power), D2 PA3 (PCINT27) (io), D5 PC7 (PCINT15) (io), D6 PA0 (ADC6/PCINT24) (io), E1 PB6 (PCINT6/CLKI) (io), E2 PD6 (PCINT22/AIN0) (io), E3 PB0 (PCINT0/CLKO/ICP1) (io), E4 PB2 (PCINT2/~{SS}/OC1B) (io), E5 AVCC (power), E6 PB5 (SCK/PCINT5) (io), F1 PB7 (PCINT7) (io), F2 PD5 (PCINT21/T1) (io), F3 PD7 (PCINT23/AIN1) (io), F4 PB1 (PCINT1/OC1A) (io), F5 PB3 (PCINT3/MOSI) (io), F6 PB4 (PCINT4/MISO) (io)

## ATtiny88-MMH
designator U?
8-bit AVR Microcontroller, 1.8-5.5V, 12MHz, 8KB Flash, 64 Bytes EEPROM, 512 Bytes SRAM, 28-pin MLF, Industrial Grade (-40°C to 85°C), Pb-Free; DatasheetVersion: revC, Mar-2009; PackageVersion: revB, Nov-2008; PackageReference: 28M1; PackageDescription: 28-pad, 4x4x1.0mm Body, Pitch 0.45mm, 2.4x2.4mm Exposed Pad, Plastic Very Thin QFN Package (VQFN); ComponentLink1Description: Manufacturer URL; ComponentLink1URL: http://www.atmel.com/; ComponentLink2Description: ATtiny48/88 Datasheet; ComponentLink2URL: http://www.atmel.com/dyn/resources/prod_documents/doc8008.pdf; ComponentLink3Description: ATtiny48/88 Summary; ComponentLink3URL: http://www.atmel.com/dyn/resources/prod_documents/8008S.pdf
footprint 28M1_N (QFN, 28-Leads, Body 4x4mm, Pitch 0.45mm, Thermal Pad 2.5x2.5mm, IPC Medium Density)
footprint 28M1_L (QFN, 28-Leads, Body 4x4mm, Pitch 0.45mm, Thermal Pad 2.5x2.5mm, IPC High Density)
footprint 28M1_M (QFN, 28-Leads, Body 4x4mm, Pitch 0.45mm, Thermal Pad 2.5x2.5mm, IPC Low Density)
pins: 1 PD3 (PCINT19/INT1) (io), 2 PD4 (PCINT20/T0) (io), 3 VCC (power), 4 GND (power), 5 PB6 (PCINT6/CLKI) (io), 6 PB7 (PCINT7) (io), 7 PD5 (PCINT21/T1) (io), 8 PD6 (PCINT22/AIN0) (io), 9 PD7 (PCINT23/AIN1) (io), 10 PB0 (PCINT0/CLKO/ICP1) (io), 11 PB1 (OC1A/PCINT1) (io), 12 PB2 (~{SS}/OC1B/PCINT2) (io), 13 PB3 (MOSI/PCINT3) (io), 14 PB4 (MISO/PCINT4) (io), 15 PB5 (SCK/PCINT5) (io), 16 AVCC (power), 17 PC7 (PCINT15) (io), 18 GND (power), 19 PC0 (ADC0/PCINT8) (io), 20 PC1 (ADC1/PCINT9) (io), 21 PC2 (ADC2/PCINT10) (io), 22 PC3 (ADC3/PCINT11) (io), 23 PC4 (ADC4/SDA/PCINT12) (io), 24 PC5 (ADC5/SCL/PCINT13) (io), 25 PC6 (PCINT14/~{RESET}) (io), 26 PD0 (PCINT16) (io), 27 PD1 (PCINT17) (io), 28 PD2 (PCINT18/INT0) (io), 29 DAP

## ATtiny88-MMHR
designator U?
8-bit AVR Microcontroller, 1.8-5.5V, 12MHz, 8KB Flash, 64 Bytes EEPROM, 512 Bytes SRAM, 28-pin MLF, Industrial Grade (-40°C to 85°C), Pb-Free, Reel; DatasheetVersion: revC, Mar-2009; PackageVersion: revB, Nov-2008; PackageReference: 28M1; PackageDescription: 28-pad, 4x4x1.0mm Body, Pitch 0.45mm, 2.4x2.4mm Exposed Pad, Plastic Very Thin QFN Package (VQFN); ComponentLink1Description: Manufacturer URL; ComponentLink1URL: http://www.atmel.com/; ComponentLink2Description: ATtiny48/88 Datasheet; ComponentLink2URL: http://www.atmel.com/dyn/resources/prod_documents/doc8008.pdf; ComponentLink3Description: ATtiny48/88 Summary; ComponentLink3URL: http://www.atmel.com/dyn/resources/prod_documents/8008S.pdf
footprint 28M1_N (QFN, 28-Leads, Body 4x4mm, Pitch 0.45mm, Thermal Pad 2.5x2.5mm, IPC Medium Density)
footprint 28M1_L (QFN, 28-Leads, Body 4x4mm, Pitch 0.45mm, Thermal Pad 2.5x2.5mm, IPC High Density)
footprint 28M1_M (QFN, 28-Leads, Body 4x4mm, Pitch 0.45mm, Thermal Pad 2.5x2.5mm, IPC Low Density)
pins: 1 PD3 (PCINT19/INT1) (io), 2 PD4 (PCINT20/T0) (io), 3 VCC (power), 4 GND (power), 5 PB6 (PCINT6/CLKI) (io), 6 PB7 (PCINT7) (io), 7 PD5 (PCINT21/T1) (io), 8 PD6 (PCINT22/AIN0) (io), 9 PD7 (PCINT23/AIN1) (io), 10 PB0 (PCINT0/CLKO/ICP1) (io), 11 PB1 (OC1A/PCINT1) (io), 12 PB2 (~{SS}/OC1B/PCINT2) (io), 13 PB3 (MOSI/PCINT3) (io), 14 PB4 (MISO/PCINT4) (io), 15 PB5 (SCK/PCINT5) (io), 16 AVCC (power), 17 PC7 (PCINT15) (io), 18 GND (power), 19 PC0 (ADC0/PCINT8) (io), 20 PC1 (ADC1/PCINT9) (io), 21 PC2 (ADC2/PCINT10) (io), 22 PC3 (ADC3/PCINT11) (io), 23 PC4 (ADC4/SDA/PCINT12) (io), 24 PC5 (ADC5/SCL/PCINT13) (io), 25 PC6 (PCINT14/~{RESET}) (io), 26 PD0 (PCINT16) (io), 27 PD1 (PCINT17) (io), 28 PD2 (PCINT18/INT0) (io), 29 DAP

## ATtiny88-MMU
designator U?
8-bit AVR Microcontroller, 1.8-5.5V, 12MHz, 8KB Flash, 64 Bytes EEPROM, 512 Bytes SRAM, 28-pin MLF, Industrial Grade (-40°C to 85°C), Pb-Free; DatasheetVersion: revC, Mar-2009; PackageVersion: revB, Nov-2008; PackageReference: 28M1; PackageDescription: 28-pad, 4x4x1.0mm Body, Pitch 0.45mm, 2.4x2.4mm Exposed Pad, Plastic Very Thin QFN Package (VQFN); ComponentLink1Description: Manufacturer URL; ComponentLink1URL: http://www.atmel.com/; ComponentLink2Description: ATtiny48/88 Datasheet; ComponentLink2URL: http://www.atmel.com/dyn/resources/prod_documents/doc8008.pdf; ComponentLink3Description: ATtiny48/88 Summary; ComponentLink3URL: http://www.atmel.com/dyn/resources/prod_documents/8008S.pdf
footprint 28M1_N (QFN, 28-Leads, Body 4x4mm, Pitch 0.45mm, Thermal Pad 2.5x2.5mm, IPC Medium Density)
footprint 28M1_L (QFN, 28-Leads, Body 4x4mm, Pitch 0.45mm, Thermal Pad 2.5x2.5mm, IPC High Density)
footprint 28M1_M (QFN, 28-Leads, Body 4x4mm, Pitch 0.45mm, Thermal Pad 2.5x2.5mm, IPC Low Density)
pins: 1 PD3 (PCINT19/INT1) (io), 2 PD4 (PCINT20/T0) (io), 3 VCC (power), 4 GND (power), 5 PB6 (PCINT6/CLKI) (io), 6 PB7 (PCINT7) (io), 7 PD5 (PCINT21/T1) (io), 8 PD6 (PCINT22/AIN0) (io), 9 PD7 (PCINT23/AIN1) (io), 10 PB0 (PCINT0/CLKO/ICP1) (io), 11 PB1 (OC1A/PCINT1) (io), 12 PB2 (~{SS}/OC1B/PCINT2) (io), 13 PB3 (MOSI/PCINT3) (io), 14 PB4 (MISO/PCINT4) (io), 15 PB5 (SCK/PCINT5) (io), 16 AVCC (power), 17 PC7 (PCINT15) (io), 18 GND (power), 19 PC0 (ADC0/PCINT8) (io), 20 PC1 (ADC1/PCINT9) (io), 21 PC2 (ADC2/PCINT10) (io), 22 PC3 (ADC3/PCINT11) (io), 23 PC4 (ADC4/SDA/PCINT12) (io), 24 PC5 (ADC5/SCL/PCINT13) (io), 25 PC6 (PCINT14/~{RESET}) (io), 26 PD0 (PCINT16) (io), 27 PD1 (PCINT17) (io), 28 PD2 (PCINT18/INT0) (io), 29 DAP

## ATtiny88-MMUR
designator U?
8-bit AVR Microcontroller, 1.8-5.5V, 12MHz, 8KB Flash, 64 Bytes EEPROM, 512 Bytes SRAM, 28-pin MLF, Industrial Grade (-40°C to 85°C), Pb-Free, Reel; DatasheetVersion: revC, Mar-2009; PackageVersion: revB, Nov-2008; PackageReference: 28M1; PackageDescription: 28-pad, 4x4x1.0mm Body, Pitch 0.45mm, 2.4x2.4mm Exposed Pad, Plastic Very Thin QFN Package (VQFN); ComponentLink1Description: Manufacturer URL; ComponentLink1URL: http://www.atmel.com/; ComponentLink2Description: ATtiny48/88 Datasheet; ComponentLink2URL: http://www.atmel.com/dyn/resources/prod_documents/doc8008.pdf; ComponentLink3Description: ATtiny48/88 Summary; ComponentLink3URL: http://www.atmel.com/dyn/resources/prod_documents/8008S.pdf
footprint 28M1_N (QFN, 28-Leads, Body 4x4mm, Pitch 0.45mm, Thermal Pad 2.5x2.5mm, IPC Medium Density)
footprint 28M1_L (QFN, 28-Leads, Body 4x4mm, Pitch 0.45mm, Thermal Pad 2.5x2.5mm, IPC High Density)
footprint 28M1_M (QFN, 28-Leads, Body 4x4mm, Pitch 0.45mm, Thermal Pad 2.5x2.5mm, IPC Low Density)
pins: 1 PD3 (PCINT19/INT1) (io), 2 PD4 (PCINT20/T0) (io), 3 VCC (power), 4 GND (power), 5 PB6 (PCINT6/CLKI) (io), 6 PB7 (PCINT7) (io), 7 PD5 (PCINT21/T1) (io), 8 PD6 (PCINT22/AIN0) (io), 9 PD7 (PCINT23/AIN1) (io), 10 PB0 (PCINT0/CLKO/ICP1) (io), 11 PB1 (OC1A/PCINT1) (io), 12 PB2 (~{SS}/OC1B/PCINT2) (io), 13 PB3 (MOSI/PCINT3) (io), 14 PB4 (MISO/PCINT4) (io), 15 PB5 (SCK/PCINT5) (io), 16 AVCC (power), 17 PC7 (PCINT15) (io), 18 GND (power), 19 PC0 (ADC0/PCINT8) (io), 20 PC1 (ADC1/PCINT9) (io), 21 PC2 (ADC2/PCINT10) (io), 22 PC3 (ADC3/PCINT11) (io), 23 PC4 (ADC4/SDA/PCINT12) (io), 24 PC5 (ADC5/SCL/PCINT13) (io), 25 PC6 (PCINT14/~{RESET}) (io), 26 PD0 (PCINT16) (io), 27 PD1 (PCINT17) (io), 28 PD2 (PCINT18/INT0) (io), 29 DAP

## ATtiny88-MU
designator U?
8-bit AVR Microcontroller, 1.8-5.5V, 12MHz, 8KB Flash, 64 Bytes EEPROM, 512 Bytes SRAM, 32-pin MLF, Industrial Grade (-40°C to 85°C), Pb-Free; DatasheetVersion: revC, Mar-2009; PackageVersion: revE, May-2006; PackageReference: 32M1-A; PackageDescription: 32-Pin Micro Lead Frame Package (MLF),  5 x 5 x 1.0 mm Body, Pitch 0.50 mm, 3.10mm Exposed Pad; Code_JEDEC: MO-220-VHHD-2; ComponentLink1Description: Manufacturer URL; ComponentLink1URL: http://www.atmel.com/; ComponentLink2Description: ATtiny48/88 Datasheet; ComponentLink2URL: http://www.atmel.com/dyn/resources/prod_documents/doc8008.pdf; ComponentLink3Description: ATtiny48/88 Summary; ComponentLink3URL: http://www.atmel.com/dyn/resources/prod_documents/8008S.pdf
footprint 32M1-A_N (QFN, 32-Leads, Body 5x5mm, Pitch 0.5mm, Thermal Pad 3.3x3.3mm, IPC Medium Density)
footprint 32M1-A_L (QFN, 32-Leads, Body 5x5mm, Pitch 0.5mm, Thermal Pad 3.3x3.3mm, IPC High Density)
footprint 32M1-A_M (QFN, 32-Leads, Body 5x5mm, Pitch 0.5mm, Thermal Pad 3.3x3.3mm, IPC Low Density)
pins: 1 PD3 (PCINT19/INT1) (io), 2 PD4 (PCINT20/T0) (io), 3 PA2 (PCINT26) (io), 4 VCC (power), 5 GND (power), 6 PA3 (PCINT27) (io), 7 PB6 (PCINT6/CLKI) (io), 8 PB7 (PCINT7) (io), 9 PD5 (PCINT21/T1) (io), 10 PD6 (PCINT22/AIN0) (io), 11 PD7 (PCINT23/AIN1) (io), 12 PB0 (PCINT0/CLKO/ICP1) (io), 13 PB1 (PCINT1/OC1A) (io), 14 PB2 (PCINT2/~{SS}/OC1B) (io), 15 PB3 (PCINT3/MOSI) (io), 16 PB4 (PCINT4/MISO) (io), 17 PB5 (SCK/PCINT5) (io), 18 AVCC (power), 19 PA0 (ADC6/PCINT24) (io), 20 PC7 (PCINT15) (io), 21 GND (power), 22 PA1 (ADC7/PCINT25) (io), 23 PC0 (ADC0/PCINT8) (io), 24 PC1 (ADC1/PCINT9) (io), 25 PC2 (ADC2/PCINT10) (io), 26 PC3 (ADC3/PCINT11) (io), 27 PC4 (ADC4/SDA/PCINT12) (io), 28 PC5 (ADC5/SCL/PCINT13) (io), 29 PC6 (~{RESET}/PCINT14) (io), 30 PD0 (PCINT16) (io), 31 PD1 (PCINT17) (io), 32 PD2 (INT0/PCINT18) (io), 33 DAP

## ATtiny88-MUR
designator U?
8-bit AVR Microcontroller, 1.8-5.5V, 12MHz, 8KB Flash, 64 Bytes EEPROM, 512 Bytes SRAM, 32-pin MLF, Industrial Grade (-40°C to 85°C), Pb-Free, Reel; DatasheetVersion: revC, Mar-2009; PackageVersion: revE, May-2006; PackageReference: 32M1-A; PackageDescription: 32-Pin Micro Lead Frame Package (MLF),  5 x 5 x 1.0 mm Body, Pitch 0.50 mm, 3.10mm Exposed Pad; Code_JEDEC: MO-220-VHHD-2; ComponentLink1Description: Manufacturer URL; ComponentLink1URL: http://www.atmel.com/; ComponentLink2Description: ATtiny48/88 Datasheet; ComponentLink2URL: http://www.atmel.com/dyn/resources/prod_documents/doc8008.pdf; ComponentLink3Description: ATtiny48/88 Summary; ComponentLink3URL: http://www.atmel.com/dyn/resources/prod_documents/8008S.pdf
footprint 32M1-A_N (QFN, 32-Leads, Body 5x5mm, Pitch 0.5mm, Thermal Pad 3.3x3.3mm, IPC Medium Density)
footprint 32M1-A_L (QFN, 32-Leads, Body 5x5mm, Pitch 0.5mm, Thermal Pad 3.3x3.3mm, IPC High Density)
footprint 32M1-A_M (QFN, 32-Leads, Body 5x5mm, Pitch 0.5mm, Thermal Pad 3.3x3.3mm, IPC Low Density)
pins: 1 PD3 (PCINT19/INT1) (io), 2 PD4 (PCINT20/T0) (io), 3 PA2 (PCINT26) (io), 4 VCC (power), 5 GND (power), 6 PA3 (PCINT27) (io), 7 PB6 (PCINT6/CLKI) (io), 8 PB7 (PCINT7) (io), 9 PD5 (PCINT21/T1) (io), 10 PD6 (PCINT22/AIN0) (io), 11 PD7 (PCINT23/AIN1) (io), 12 PB0 (PCINT0/CLKO/ICP1) (io), 13 PB1 (PCINT1/OC1A) (io), 14 PB2 (PCINT2/~{SS}/OC1B) (io), 15 PB3 (PCINT3/MOSI) (io), 16 PB4 (PCINT4/MISO) (io), 17 PB5 (SCK/PCINT5) (io), 18 AVCC (power), 19 PA0 (ADC6/PCINT24) (io), 20 PC7 (PCINT15) (io), 21 GND (power), 22 PA1 (ADC7/PCINT25) (io), 23 PC0 (ADC0/PCINT8) (io), 24 PC1 (ADC1/PCINT9) (io), 25 PC2 (ADC2/PCINT10) (io), 26 PC3 (ADC3/PCINT11) (io), 27 PC4 (ADC4/SDA/PCINT12) (io), 28 PC5 (ADC5/SCL/PCINT13) (io), 29 PC6 (~{RESET}/PCINT14) (io), 30 PD0 (PCINT16) (io), 31 PD1 (PCINT17) (io), 32 PD2 (INT0/PCINT18) (io), 33 DAP

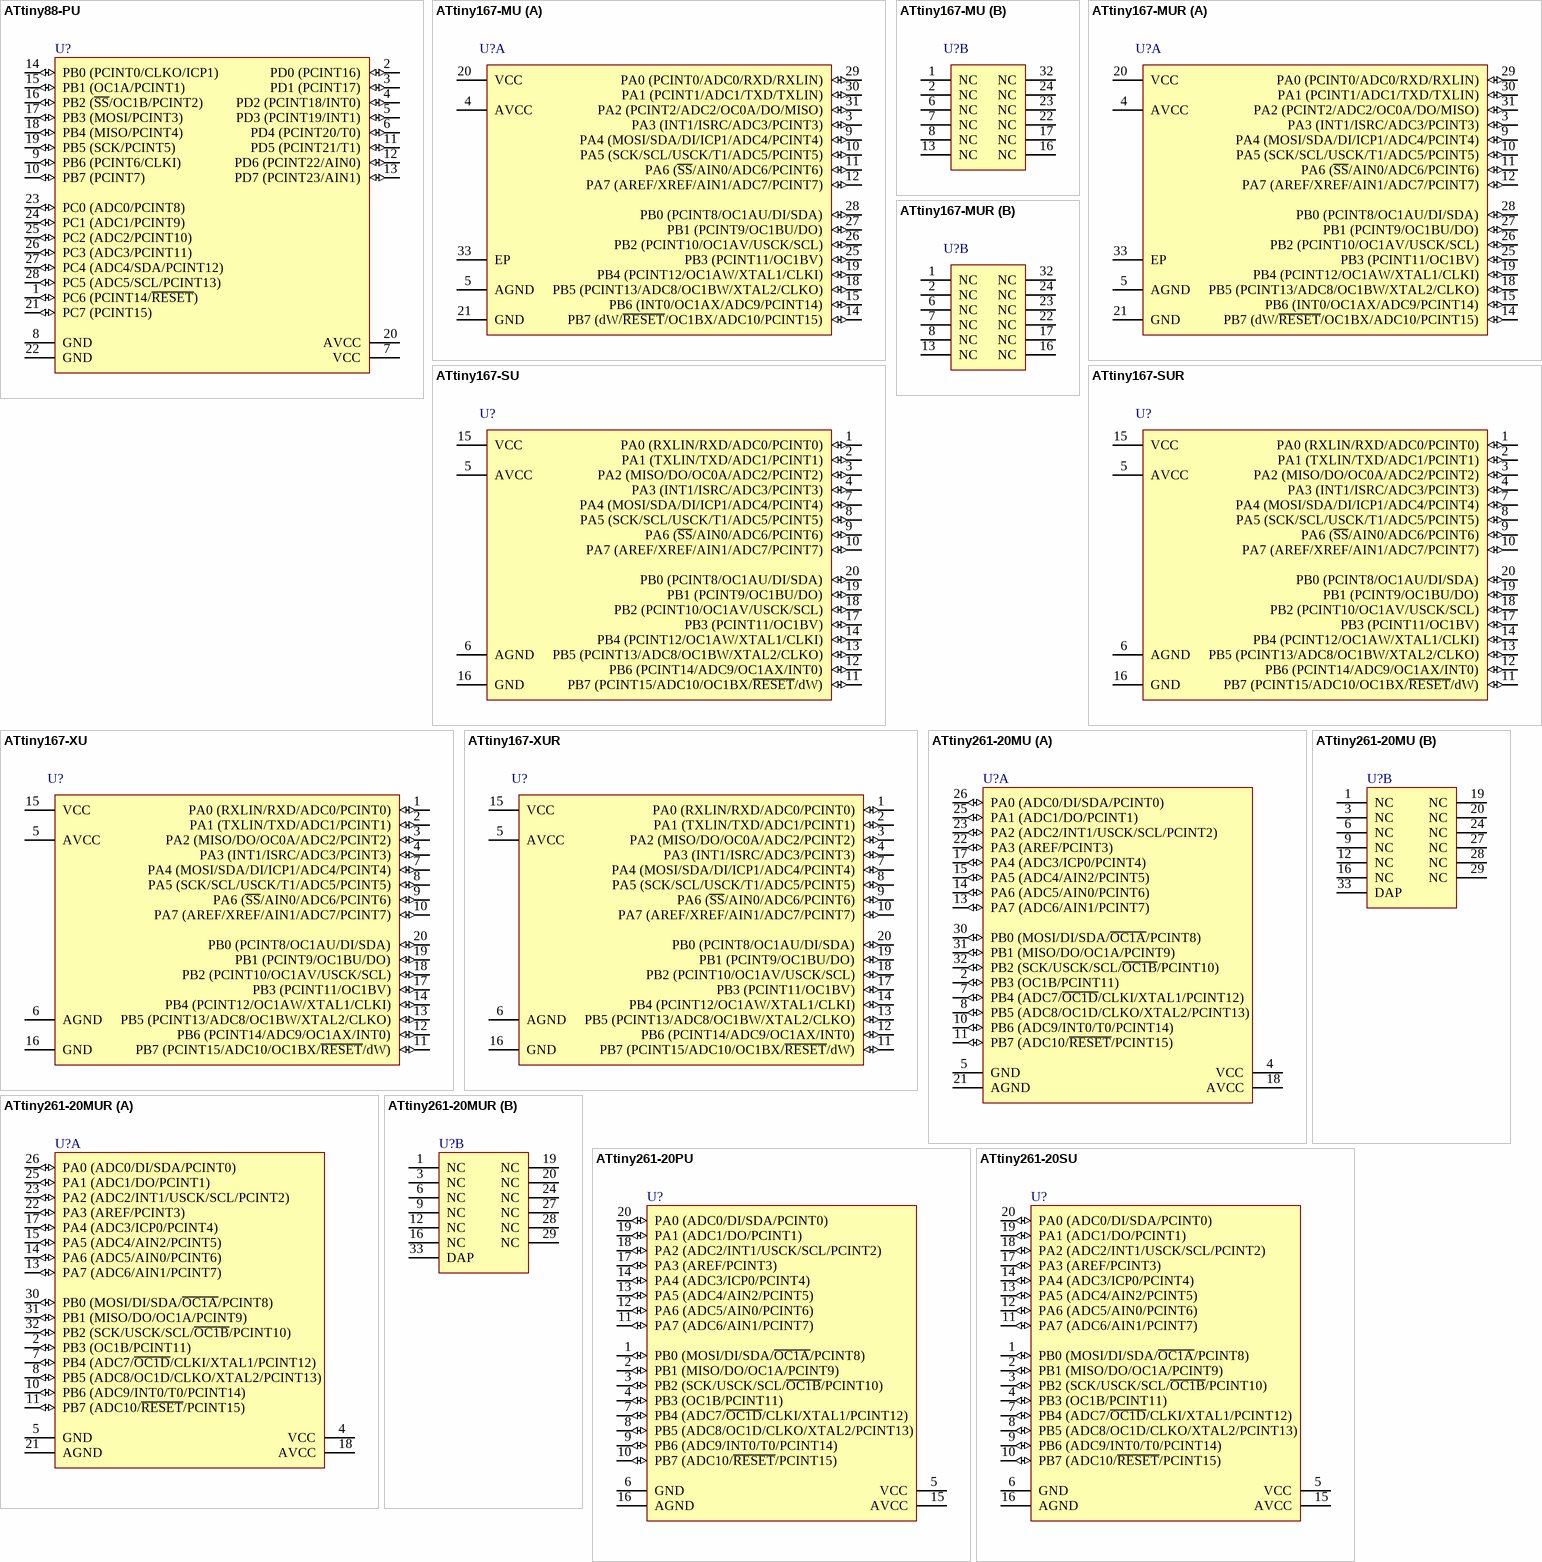
[diagram p19: symbols ATtiny88-PU to ATtiny261-20SU]

## ATtiny88-PU
designator U?
8-bit AVR Microcontroller, 1.8-5.5V, 12MHz, 8KB Flash, 64 Bytes EEPROM, 512 Bytes SRAM, 28-pin PDIP, Industrial Grade (-40°C to 85°C), Pb-Free; DatasheetVersion: revC, Mar-2009; PackageVersion: revB, Sep-2001; PackageReference: 28P3; PackageDescription: 28-lead (0.300"/7.62mm Wide) Plastic Dual Inline Package (PDIP); ComponentLink1Description: Manufacturer URL; ComponentLink1URL: http://www.atmel.com/; ComponentLink2Description: ATtiny48/88 Datasheet; ComponentLink2URL: http://www.atmel.com/dyn/resources/prod_documents/doc8008.pdf; ComponentLink3Description: ATtiny48/88 Summary; ComponentLink3URL: http://www.atmel.com/dyn/resources/prod_documents/8008S.pdf
footprint 28P3 (DIP, 28-Leads, Row Spacing 7.62mm, Pitch 2.54mm, Body 34.67x7.3mm)
pins: 1 PC6 (PCINT14/~{RESET}) (io), 2 PD0 (PCINT16) (io), 3 PD1 (PCINT17) (io), 4 PD2 (PCINT18/INT0) (io), 5 PD3 (PCINT19/INT1) (io), 6 PD4 (PCINT20/T0) (io), 7 VCC (power), 8 GND (power), 9 PB6 (PCINT6/CLKI) (io), 10 PB7 (PCINT7) (io), 11 PD5 (PCINT21/T1) (io), 12 PD6 (PCINT22/AIN0) (io), 13 PD7 (PCINT23/AIN1) (io), 14 PB0 (PCINT0/CLKO/ICP1) (io), 15 PB1 (OC1A/PCINT1) (io), 16 PB2 (~{SS}/OC1B/PCINT2) (io), 17 PB3 (MOSI/PCINT3) (io), 18 PB4 (MISO/PCINT4) (io), 19 PB5 (SCK/PCINT5) (io), 20 AVCC (power), 21 PC7 (PCINT15) (io), 22 GND (power), 23 PC0 (ADC0/PCINT8) (io), 24 PC1 (ADC1/PCINT9) (io), 25 PC2 (ADC2/PCINT10) (io), 26 PC3 (ADC3/PCINT11) (io), 27 PC4 (ADC4/SDA/PCINT12) (io), 28 PC5 (ADC5/SCL/PCINT13) (io)

## ATtiny167-MU
designator U?
8-bit AVR Microcontroller, LIN Controller, 1.8-5.5V, 20MHz, 16KB Flash, 512 Bytes EEPROM, 512 Bytes SRAM, 32-pin MLF, Industrial Grade (-40°C to 85°C); DatasheetVersion: revB, Sep-2010; PackageVersion: revE, May-2006; PackageReference: 32M1-A; PackageDescription: 32-Pin Micro Lead Frame Package (MLF),  5 x 5 x 1.0 mm Body, Pitch 0.50 mm, 3.10mm Exposed Pad; Code_JEDEC: MO-220-VHHD-2; ComponentLink1Description: Manufacturer URL; ComponentLink1URL: http://www.atmel.com/; ComponentLink2Description: ATtiny87/167 Datasheet; ComponentLink2URL: http://www.atmel.com/dyn/resources/prod_documents/doc8265.pdf; ComponentLink3Description: ATtiny87/167 Summary; ComponentLink3URL: http://www.atmel.com/dyn/resources/prod_documents/8265S.pdf
footprint 32M1-A_N (QFN, 32-Leads, Body 5x5mm, Pitch 0.5mm, Thermal Pad 3.3x3.3mm, IPC Medium Density)
footprint 32M1-A_L (QFN, 32-Leads, Body 5x5mm, Pitch 0.5mm, Thermal Pad 3.3x3.3mm, IPC High Density)
footprint 32M1-A_M (QFN, 32-Leads, Body 5x5mm, Pitch 0.5mm, Thermal Pad 3.3x3.3mm, IPC Low Density)
part A pins: 3 PA3 (INT1/ISRC/ADC3/PCINT3) (io), 4 AVCC (power), 5 AGND (power), 9 PA4 (MOSI/SDA/DI/ICP1/ADC4/PCINT4) (io), 10 PA5 (SCK/SCL/USCK/T1/ADC5/PCINT5) (io), 11 PA6 (~{SS}/AIN0/ADC6/PCINT6) (io), 12 PA7 (AREF/XREF/AIN1/ADC7/PCINT7) (io), 14 PB7 (dW/~{RESET}/OC1BX/ADC10/PCINT15) (io), 15 PB6 (INT0/OC1AX/ADC9/PCINT14) (io), 18 PB5 (PCINT13/ADC8/OC1BW/XTAL2/CLKO) (io), 19 PB4 (PCINT12/OC1AW/XTAL1/CLKI) (io), 20 VCC (power), 21 GND (power), 25 PB3 (PCINT11/OC1BV) (io), 26 PB2 (PCINT10/OC1AV/USCK/SCL) (io), 27 PB1 (PCINT9/OC1BU/DO) (io), 28 PB0 (PCINT8/OC1AU/DI/SDA) (io), 29 PA0 (PCINT0/ADC0/RXD/RXLIN) (io), 30 PA1 (PCINT1/ADC1/TXD/TXLIN) (io), 31 PA2 (PCINT2/ADC2/OC0A/DO/MISO) (io), 33 EP (power)
part B pins: 1 NC, 2 NC, 6 NC, 7 NC, 8 NC, 13 NC, 16 NC, 17 NC, 22 NC, 23 NC, 24 NC, 32 NC

## ATtiny167-MUR
designator U?
8-bit AVR Microcontroller, LIN Controller, 1.8-5.5V, 20MHz, 16KB Flash, 512 Bytes EEPROM, 512 Bytes SRAM, 32-pin MLF, Industrial Grade (-40°C to 85°C), Reel; DatasheetVersion: revB, Sep-2010; PackageVersion: revE, May-2006; PackageReference: 32M1-A; PackageDescription: 32-Pin Micro Lead Frame Package (MLF),  5 x 5 x 1.0 mm Body, Pitch 0.50 mm, 3.10mm Exposed Pad; Code_JEDEC: MO-220-VHHD-2; ComponentLink1Description: Manufacturer URL; ComponentLink1URL: http://www.atmel.com/; ComponentLink2Description: ATtiny87/167 Datasheet; ComponentLink2URL: http://www.atmel.com/dyn/resources/prod_documents/doc8265.pdf; ComponentLink3Description: ATtiny87/167 Summary; ComponentLink3URL: http://www.atmel.com/dyn/resources/prod_documents/8265S.pdf
footprint 32M1-A_N (QFN, 32-Leads, Body 5x5mm, Pitch 0.5mm, Thermal Pad 3.3x3.3mm, IPC Medium Density)
footprint 32M1-A_L (QFN, 32-Leads, Body 5x5mm, Pitch 0.5mm, Thermal Pad 3.3x3.3mm, IPC High Density)
footprint 32M1-A_M (QFN, 32-Leads, Body 5x5mm, Pitch 0.5mm, Thermal Pad 3.3x3.3mm, IPC Low Density)
part A pins: 3 PA3 (INT1/ISRC/ADC3/PCINT3) (io), 4 AVCC (power), 5 AGND (power), 9 PA4 (MOSI/SDA/DI/ICP1/ADC4/PCINT4) (io), 10 PA5 (SCK/SCL/USCK/T1/ADC5/PCINT5) (io), 11 PA6 (~{SS}/AIN0/ADC6/PCINT6) (io), 12 PA7 (AREF/XREF/AIN1/ADC7/PCINT7) (io), 14 PB7 (dW/~{RESET}/OC1BX/ADC10/PCINT15) (io), 15 PB6 (INT0/OC1AX/ADC9/PCINT14) (io), 18 PB5 (PCINT13/ADC8/OC1BW/XTAL2/CLKO) (io), 19 PB4 (PCINT12/OC1AW/XTAL1/CLKI) (io), 20 VCC (power), 21 GND (power), 25 PB3 (PCINT11/OC1BV) (io), 26 PB2 (PCINT10/OC1AV/USCK/SCL) (io), 27 PB1 (PCINT9/OC1BU/DO) (io), 28 PB0 (PCINT8/OC1AU/DI/SDA) (io), 29 PA0 (PCINT0/ADC0/RXD/RXLIN) (io), 30 PA1 (PCINT1/ADC1/TXD/TXLIN) (io), 31 PA2 (PCINT2/ADC2/OC0A/DO/MISO) (io), 33 EP (power)
part B pins: 1 NC, 2 NC, 6 NC, 7 NC, 8 NC, 13 NC, 16 NC, 17 NC, 22 NC, 23 NC, 24 NC, 32 NC

## ATtiny167-SU
designator U?
8-bit AVR Microcontroller, LIN Controller, 1.8-5.5V, 20MHz, 16KB Flash, 512 Bytes EEPROM, 512 Bytes SRAM, 20-pin SOIC, Industrial Grade (-40°C to 85°C); DatasheetVersion: revB, Sep-2010; PackageVersion: revB, Nov-2006; PackageReference: 20S2; PackageDescription: 20-lead, 0.300" Wide Body, Plastic Gull Wing Small Outline Package (SOIC); Code_JEDEC: MS-013-AC; Code_IPC: SOIC127P1030-20; ComponentLink1Description: Manufacturer URL; ComponentLink1URL: http://www.atmel.com/; ComponentLink2Description: ATtiny87/167 Datasheet; ComponentLink2URL: http://www.atmel.com/dyn/resources/prod_documents/doc8265.pdf; ComponentLink3Description: ATtiny87/167 Summary; ComponentLink3URL: http://www.atmel.com/dyn/resources/prod_documents/8265S.pdf
footprint 20S2_N (SOIC, 20-Leads, Body 12.8x7.5mm, Pitch 1.27mm, IPC Medium Density)
footprint 20S2_L (SOIC, 20-Leads, Body 12.8x7.5mm, Pitch 1.27mm, IPC High Density)
footprint 20S2_M (SOIC, 20-Leads, Body 12.8x7.5mm, Pitch 1.27mm, IPC Low Density)
pins: 1 PA0 (RXLIN/RXD/ADC0/PCINT0) (io), 2 PA1 (TXLIN/TXD/ADC1/PCINT1) (io), 3 PA2 (MISO/DO/OC0A/ADC2/PCINT2) (io), 4 PA3 (INT1/ISRC/ADC3/PCINT3) (io), 5 AVCC (power), 6 AGND (power), 7 PA4 (MOSI/SDA/DI/ICP1/ADC4/PCINT4) (io), 8 PA5 (SCK/SCL/USCK/T1/ADC5/PCINT5) (io), 9 PA6 (~{SS}/AIN0/ADC6/PCINT6) (io), 10 PA7 (AREF/XREF/AIN1/ADC7/PCINT7) (io), 11 PB7 (PCINT15/ADC10/OC1BX/~{RESET}/dW) (io), 12 PB6 (PCINT14/ADC9/OC1AX/INT0) (io), 13 PB5 (PCINT13/ADC8/OC1BW/XTAL2/CLKO) (io), 14 PB4 (PCINT12/OC1AW/XTAL1/CLKI) (io), 15 VCC (power), 16 GND (power), 17 PB3 (PCINT11/OC1BV) (io), 18 PB2 (PCINT10/OC1AV/USCK/SCL) (io), 19 PB1 (PCINT9/OC1BU/DO) (io), 20 PB0 (PCINT8/OC1AU/DI/SDA) (io)

## ATtiny167-SUR
designator U?
8-bit AVR Microcontroller, LIN Controller, 1.8-5.5V, 20MHz, 16KB Flash, 512 Bytes EEPROM, 512 Bytes SRAM, 20-pin SOIC, Industrial Grade (-40°C to 85°C), Reel; DatasheetVersion: revB, Sep-2010; PackageVersion: revB, Nov-2006; PackageReference: 20S2; PackageDescription: 20-lead, 0.300" Wide Body, Plastic Gull Wing Small Outline Package (SOIC); Code_JEDEC: MS-013-AC; Code_IPC: SOIC127P1030-20; ComponentLink1Description: Manufacturer URL; ComponentLink1URL: http://www.atmel.com/; ComponentLink2Description: ATtiny87/167 Datasheet; ComponentLink2URL: http://www.atmel.com/dyn/resources/prod_documents/doc8265.pdf; ComponentLink3Description: ATtiny87/167 Summary; ComponentLink3URL: http://www.atmel.com/dyn/resources/prod_documents/8265S.pdf
footprint 20S2_N (SOIC, 20-Leads, Body 12.8x7.5mm, Pitch 1.27mm, IPC Medium Density)
footprint 20S2_L (SOIC, 20-Leads, Body 12.8x7.5mm, Pitch 1.27mm, IPC High Density)
footprint 20S2_M (SOIC, 20-Leads, Body 12.8x7.5mm, Pitch 1.27mm, IPC Low Density)
pins: 1 PA0 (RXLIN/RXD/ADC0/PCINT0) (io), 2 PA1 (TXLIN/TXD/ADC1/PCINT1) (io), 3 PA2 (MISO/DO/OC0A/ADC2/PCINT2) (io), 4 PA3 (INT1/ISRC/ADC3/PCINT3) (io), 5 AVCC (power), 6 AGND (power), 7 PA4 (MOSI/SDA/DI/ICP1/ADC4/PCINT4) (io), 8 PA5 (SCK/SCL/USCK/T1/ADC5/PCINT5) (io), 9 PA6 (~{SS}/AIN0/ADC6/PCINT6) (io), 10 PA7 (AREF/XREF/AIN1/ADC7/PCINT7) (io), 11 PB7 (PCINT15/ADC10/OC1BX/~{RESET}/dW) (io), 12 PB6 (PCINT14/ADC9/OC1AX/INT0) (io), 13 PB5 (PCINT13/ADC8/OC1BW/XTAL2/CLKO) (io), 14 PB4 (PCINT12/OC1AW/XTAL1/CLKI) (io), 15 VCC (power), 16 GND (power), 17 PB3 (PCINT11/OC1BV) (io), 18 PB2 (PCINT10/OC1AV/USCK/SCL) (io), 19 PB1 (PCINT9/OC1BU/DO) (io), 20 PB0 (PCINT8/OC1AU/DI/SDA) (io)

## ATtiny167-XU
designator U?
8-bit AVR Microcontroller, LIN Controller, 1.8-5.5V, 20MHz, 16KB Flash, 512 Bytes EEPROM, 512 Bytes SRAM, 20-pin TSSOP, Industrial Grade (-40°C to 85°C); DatasheetVersion: revB, Sep-2010; PackageVersion: revC, Oct-2003; PackageReference: 20X; PackageDescription: 20-lead, 4.4 mm Body Width, Plastic Thin Shrink Small Outline Package (TSSOP); ComponentLink1Description: Manufacturer URL; ComponentLink1URL: http://www.atmel.com/; ComponentLink2Description: ATtiny87/167 Datasheet; ComponentLink2URL: http://www.atmel.com/dyn/resources/prod_documents/doc8265.pdf; ComponentLink3Description: ATtiny87/167 Summary; ComponentLink3URL: http://www.atmel.com/dyn/resources/prod_documents/8265S.pdf
footprint 20X_N (TSOP, 20-Leads, Body 6.5x4.4mm, Pitch 0.65mm, IPC Medium Density)
footprint 20X_L (TSOP, 20-Leads, Body 6.5x4.4mm, Pitch 0.65mm, IPC High Density)
footprint 20X_M (TSOP, 20-Leads, Body 6.5x4.4mm, Pitch 0.65mm, IPC Low Density)
pins: 1 PA0 (RXLIN/RXD/ADC0/PCINT0) (io), 2 PA1 (TXLIN/TXD/ADC1/PCINT1) (io), 3 PA2 (MISO/DO/OC0A/ADC2/PCINT2) (io), 4 PA3 (INT1/ISRC/ADC3/PCINT3) (io), 5 AVCC (power), 6 AGND (power), 7 PA4 (MOSI/SDA/DI/ICP1/ADC4/PCINT4) (io), 8 PA5 (SCK/SCL/USCK/T1/ADC5/PCINT5) (io), 9 PA6 (~{SS}/AIN0/ADC6/PCINT6) (io), 10 PA7 (AREF/XREF/AIN1/ADC7/PCINT7) (io), 11 PB7 (PCINT15/ADC10/OC1BX/~{RESET}/dW) (io), 12 PB6 (PCINT14/ADC9/OC1AX/INT0) (io), 13 PB5 (PCINT13/ADC8/OC1BW/XTAL2/CLKO) (io), 14 PB4 (PCINT12/OC1AW/XTAL1/CLKI) (io), 15 VCC (power), 16 GND (power), 17 PB3 (PCINT11/OC1BV) (io), 18 PB2 (PCINT10/OC1AV/USCK/SCL) (io), 19 PB1 (PCINT9/OC1BU/DO) (io), 20 PB0 (PCINT8/OC1AU/DI/SDA) (io)